# Altium integrated library Lattice ORCA Series 2.IntLib: 202 symbols (part 16 of 22)
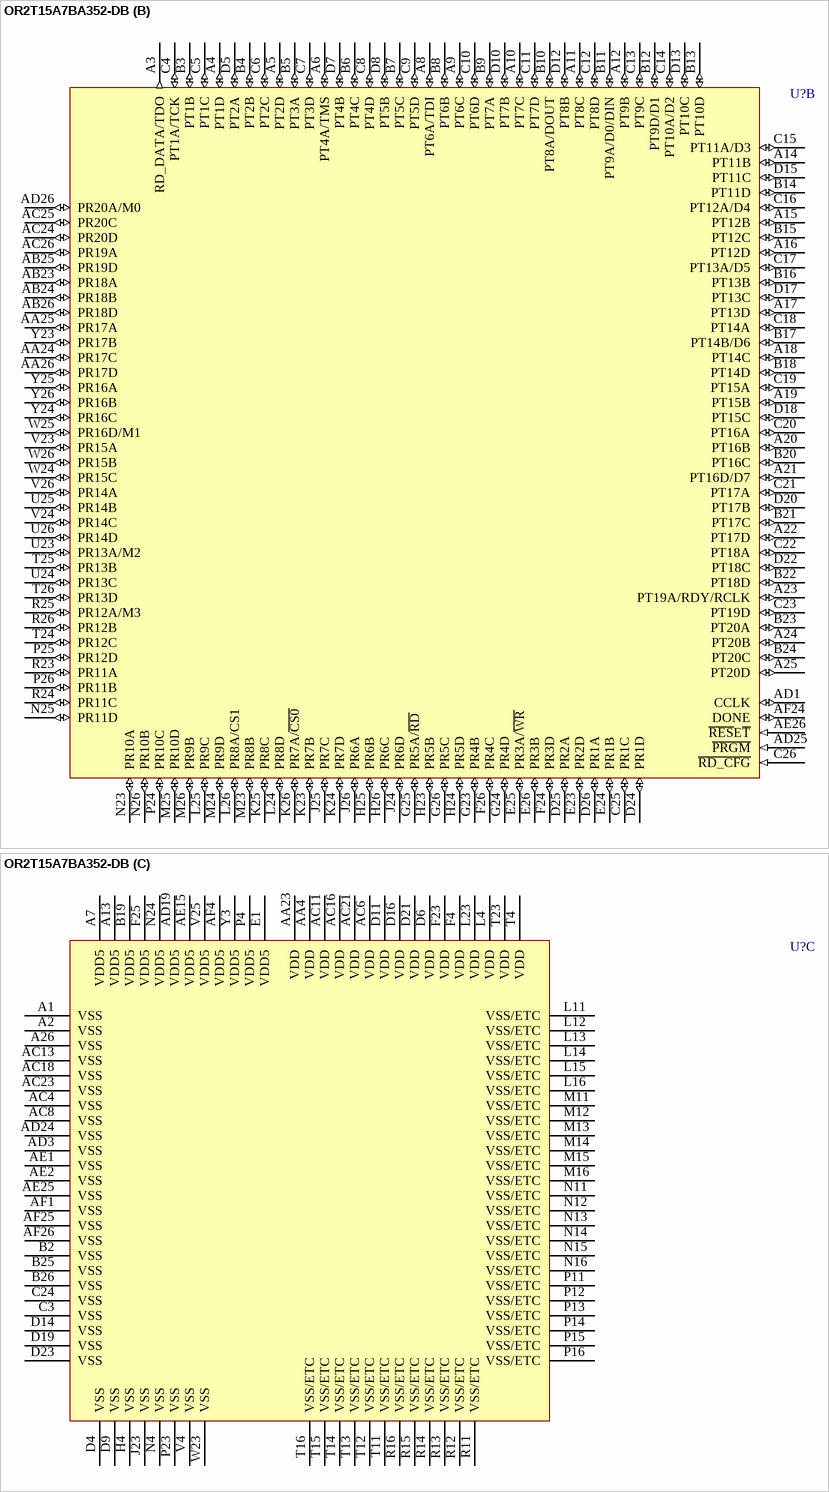
[diagram p207: symbol OR2T15A7BA352-DB]

## OR2T15A7BA352-DB
designator U?
ORCA Series 2C FPGA: 3.3 V, Commercial Grade, 320 User I/Os.; PinConnectionRecommendation: Ground array of 'VSS-ETC' pins for enhanced thermal capability or leave unconnected.; Published: 21-May-2003; LatestRevisionDate: 13-Apr-2006; LatestRevisionNote: IPC-7351 Footprint Added.; DatasheetVersion: Jan-2003; PackageVersion: pkg_32, Aug-2005; PackageReference: BGA388; Publisher: Altium Limited; PackageDescription: 388-Ball Ball Grid Array (BGA388); ComponentLink1Description: Manufacturer Link; ComponentLink1URL: http://www.latticesemi.com/products/fpga/orca/orca2/index.cfm; ComponentLink2Description: Datasheet; ComponentLink2URL: http://www.latticesemi.com/lit/docs/datasheets/fpga/ds99-094fpga.pdf; ComponentLink3Description: Lattice Login; ComponentLink3URL: http://www.latticesemi.com/account/login.cfm
footprint BGA388 (BGA, 388-Leads, Body 35x35mm, Pitch 1.27mm)
3D model OR2T15A-BGA388 (388-Ball Ball Grid Array (BGA388))
part A pins: AA1 PL17A (io), AA2 PL17C (io), AA3 PL19D (io), AB1 PL18A (io), AB2 PL18C (io), AB3 PL20C (io), AB4 PL19A (io), AC1 PL20D (io), AC2 PL19C (io), AC3 PL20A/A15 (io), AC5 PB3C (io), AC7 PB4C (io), AC9 PB6B (io), AC10 PB8B (io), AC12 PB10B (io), AC14 PB11B (io), AC15 PB13C (io), AC17 PB14C (io), AC19 PB16C (io), AC20 PB17C (io), AC22 PB19D (io), AD2 PL20B (io), AD4 PB2A (io), AD5 PB3D (io), AD6 PB4D/A17 (io), AD7 PB5D (io), AD8 PB6D (io), AD9 PB7D (io), AD10 PB8D (io), AD11 PB9D (io), AD12 PB10D (io), AD13 PB11D (io), AD14 PB12B (io), AD15 PB13A/HDC (io), AD16 PB14A/~{LDC} (io), AD17 PB15A (io), AD18 PB16A/~{INIT} (io), AD20 PB18A (io), AD21 PB19A (io), AD22 PB20B (io), AD23 PB20D (io), AE3 PB1B (io), AE4 PB1D (io), AE5 PB3A (io), AE6 PB4B (io), AE7 PB5B (io), AE8 PB6A (io), AE9 PB7A (io), AE10 PB7C (io), AE11 PB8C (io), AE12 PB9B (io), AE13 PB10A (io), AE14 PB11A (io), AE16 PB12D (io), AE17 PB13D (io), AE18 PB14D (io), AE19 PB15C (io), AE20 PB16B (io), AE21 PB17B (io), AE22 PB18B (io), AE23 PB19C (io), AE24 PB20C (io), AF2 PB1A/A16 (io), AF3 PB1C (io), AF5 PB4A (io), AF6 PB5A (io), AF7 PB5C (io), AF8 PB6C (io), AF9 PB7B (io), AF10 PB8A (io), AF11 PB9A (io), AF12 PB9C (io), AF13 PB10C (io), AF14 PB11C (io), AF15 PB12C (io), AF16 PB13B (io), AF17 PB14B (io), AF18 PB15B (io), AF19 PB15D (io), AF20 PB16D (io), AF21 PB17D (io), AF22 PB18D (io), AF23 PB20A (io), B1 PL1D (io), C1 PL1B (io), C2 PL1C (io), D1 PL2A (io), D2 PL1A (io), D3 PL2D/A0 (io), E2 PL3D (io), E3 PL3A (io), E4 PL3B (io), F1 PL5D (io), F2 PL4C (io), F3 PL4A (io), G1 PL5B (io), G2 PL5C (io), G3 PL5A/A1 (io), G4 PL4B (io), H1 PL6B (io), H2 PL6D (io), H3 PL6A/A2 (io), J1 PL7C (io), J2 PL7D (io), J3 PL7A/A3 (io), J4 PL6C (io), K1 PL8D (io), K2 PL7B (io), K3 PL8A/A4 (io), K4 PL8C (io), L1 PL9D/A5 (io), L2 PL8B (io), L3 PL9A/A6 (io), M1 PL9B (io), M2 PL9C (io), M3 PL10A/A7 (io), M4 PL10C (io), N1 PL10B (io), N2 PL10D (io), N3 PL11A/A8 (io), P1 PL11B (io), P2 PL11D (io), P3 PL12C (io), R1 PL12B (io), R2 PL12D/A9 (io), R3 PL13D (io), R4 PL13B (io), T1 PL13C (io), T2 PL12A/A10 (io), T3 PL14D/A12 (io), U1 PL14C (io), U2 PL13A/A11 (io), U3 PL15D (io), U4 PL14B (io), V1 PL15C (io), V2 PL14A (io), V3 PL16D (io), W1 PL15A (io), W2 PL15B/A13 (io), W3 PL17D/A14 (io), W4 PL16B (io), Y1 PL16A (io), Y2 PL16C (io), Y4 PL17B (io)
part B pins: A3 RD_DATA/TDO (out), A4 PT1D (io), A5 PT2D (io), A6 PT4A/TMS (io), A8 PT6A/TDI (io), A9 PT6C (io), A10 PT7C (io), A11 PT8C (io), A12 PT9B (io), A14 PT11B (io), A15 PT12B (io), A16 PT12D (io), A17 PT13D (io), A18 PT14C (io), A19 PT15B (io), A20 PT16B (io), A21 PT16D/D7 (io), A22 PT17D (io), A23 PT19A/RDY/RCLK (io), A24 PT20B (io), A25 PT20D (io), AA24 PR17C (io), AA25 PR17A (io), AA26 PR17D (io), AB23 PR18A (io), AB24 PR18B (io), AB25 PR19D (io), AB26 PR18D (io), AC24 PR20D (io), AC25 PR20C (io), AC26 PR19A (io), AD1 CCLK (io), AD25 ~{PRGM} (in), AD26 PR20A/M0 (io), AE26 ~{RES}E~{T} (in), AF24 DONE (io), B3 PT1B (io), B4 PT2B (io), B5 PT3A (io), B6 PT4C (io), B7 PT5C (io), B8 PT6B (io), B9 PT7A (io), B10 PT8A/DOUT (io), B11 PT9A/D0/DIN (io), B12 PT9D/D1 (io), B13 PT10D (io), B14 PT11D (io), B15 PT12C (io), B16 PT13B (io), B17 PT14B/D6 (io), B18 PT14D (io), B20 PT16C (io), B21 PT17C (io), B22 PT18D (io), B23 PT20A (io), B24 PT20C (io), C4 PT1A/TCK (io), C5 PT1C (io), C6 PT2C (io), C7 PT3D (io), C8 PT4D (io), C9 PT5D (io), C10 PT6D (io), C11 PT7D (io), C12 PT8D (io), C13 PT9C (io), C14 PT10A/D2 (io), C15 PT11A/D3 (io), C16 PT12A/D4 (io), C17 PT13A/D5 (io), C18 PT14A (io), C19 PT15A (io), C20 PT16A (io), C21 PT17A (io), C22 PT18A (io), C23 PT19D (io), C25 PR1C (io), C26 ~{RD_CFG} (in), D5 PT2A (io), D7 PT4B (io), D8 PT5B (io), D10 PT7B (io), D12 PT8B (io), D13 PT10C (io), D15 PT11C (io), D17 PT13C (io), D18 PT15C (io), D20 PT17B (io), D22 PT18C (io), D24 PR1D (io), D25 PR2A (io), D26 PR1A (io), E23 PR2D (io), E24 PR1B (io), E25 PR3A/~{WR} (io), E26 PR3B (io), F24 PR3D (io), F26 PR4C (io), G23 PR4B (io), G24 PR4D (io), G25 PR5A/~{RD} (io), G26 PR5C (io), H23 PR5B (io), H24 PR5D (io), H25 PR6B (io), H26 PR6C (io), J24 PR6D (io), J25 PR7C (io), J26 PR6A (io), K23 PR7B (io), K24 PR7D (io), K25 PR8C (io), K26 PR7A/~{CS0} (io), L24 PR8D (io), L25 PR9C (io), L26 PR8A/CS1 (io), M23 PR8B (io), M24 PR9D (io), M25 PR10D (io), M26 PR9B (io), N23 PR10A (io), N25 PR11D (io), N26 PR10B (io), P24 PR10C (io), P25 PR12D (io), P26 PR11B (io), R23 PR11A (io), R24 PR11C (io), R25 PR12A/M3 (io), R26 PR12B (io), T24 PR12C (io), T25 PR13B (io), T26 PR13D (io), U23 PR13A/M2 (io), U24 PR13C (io), U25 PR14B (io), U26 PR14D (io), V23 PR15A (io), V24 PR14C (io), V26 PR14A (io), W24 PR15C (io), W25 PR16D/M1 (io), W26 PR15B (io), Y23 PR17B (io), Y24 PR16C (io), Y25 PR16A (io), Y26 PR16B (io)
part C pins: A1 VSS (power), A2 VSS (power), A7 VDD5 (power), A13 VDD5 (power), A26 VSS (power), AA4 VDD (power), AA23 VDD (power), AC4 VSS (power), AC6 VDD (power), AC8 VSS (power), AC11 VDD (power), AC13 VSS (power), AC16 VDD (power), AC18 VSS (power), AC21 VDD (power), AC23 VSS (power), AD3 VSS (power), AD19 VDD5 (power), AD24 VSS (power), AE1 VSS (power), AE2 VSS (power), AE15 VDD5 (power), AE25 VSS (power), AF1 VSS (power), AF4 VDD5 (power), AF25 VSS (power), AF26 VSS (power), B2 VSS (power), B19 VDD5 (power), B25 VSS (power), B26 VSS (power), C3 VSS (power), C24 VSS (power), D4 VSS (power), D6 VDD (power), D9 VSS (power), D11 VDD (power), D14 VSS (power), D16 VDD (power), D19 VSS (power), D21 VDD (power), D23 VSS (power), E1 VDD5 (power), F4 VDD (power), F23 VDD (power), F25 VDD5 (power), H4 VSS (power), J23 VSS (power), L4 VDD (power), L11 VSS/ETC (power), L12 VSS/ETC (power), L13 VSS/ETC (power), L14 VSS/ETC (power), L15 VSS/ETC (power), L16 VSS/ETC (power), L23 VDD (power), M11 VSS/ETC (power), M12 VSS/ETC (power), M13 VSS/ETC (power), M14 VSS/ETC (power), M15 VSS/ETC (power), M16 VSS/ETC (power), N4 VSS (power), N11 VSS/ETC (power), N12 VSS/ETC (power), N13 VSS/ETC (power), N14 VSS/ETC (power), N15 VSS/ETC (power), N16 VSS/ETC (power), N24 VDD5 (power), P4 VDD5 (power), P11 VSS/ETC (power), P12 VSS/ETC (power), P13 VSS/ETC (power), P14 VSS/ETC (power), P15 VSS/ETC (power), P16 VSS/ETC (power), P23 VSS (power), R11 VSS/ETC (power), R12 VSS/ETC (power), R13 VSS/ETC (power), R14 VSS/ETC (power), R15 VSS/ETC (power), R16 VSS/ETC (power), T4 VDD (power), T11 VSS/ETC (power), T12 VSS/ETC (power), T13 VSS/ETC (power), T14 VSS/ETC (power), T15 VSS/ETC (power), T16 VSS/ETC (power), T23 VDD (power), V4 VSS (power), V25 VDD5 (power), W23 VSS (power), Y3 VDD5 (power)

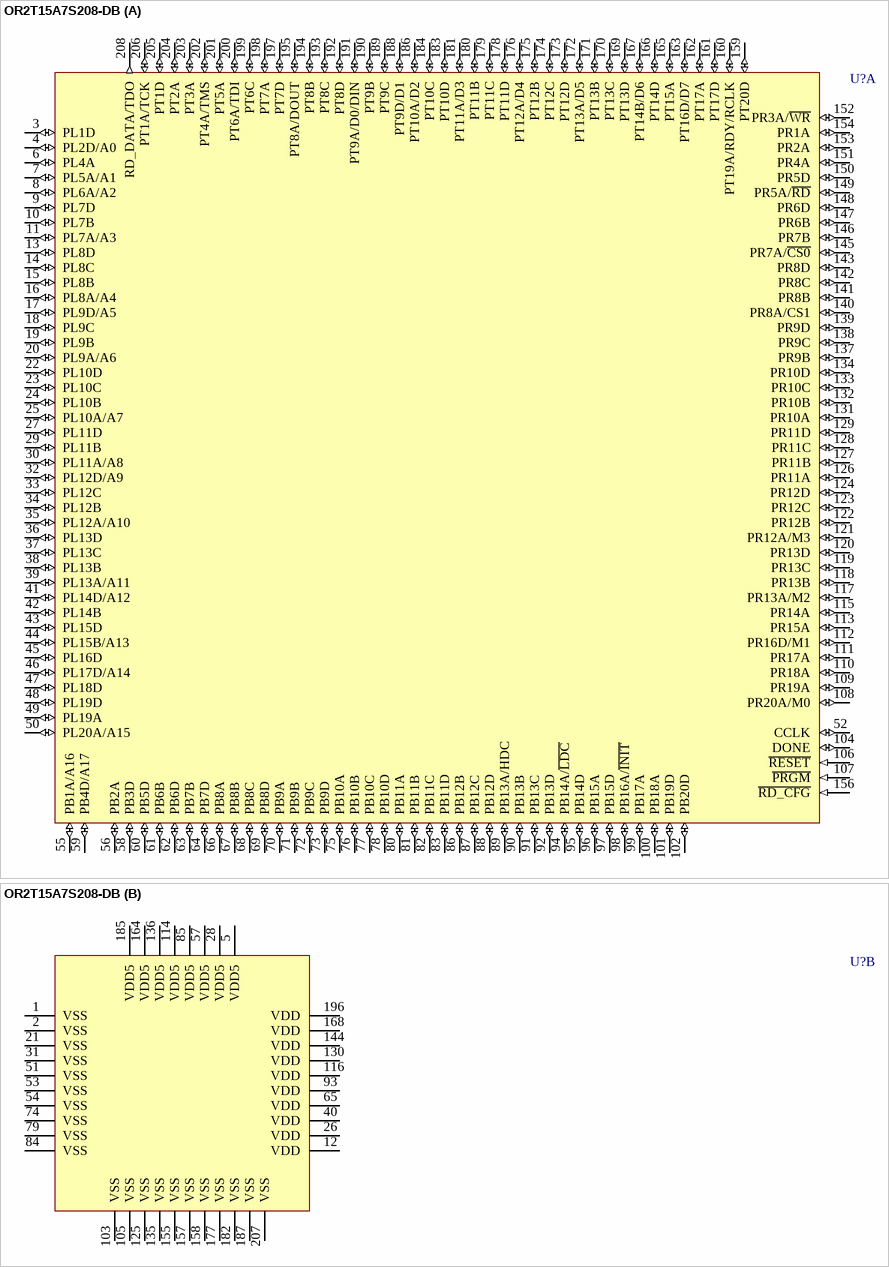
[diagram p124: symbol OR2T15A7S208-DB]

## OR2T15A7S208-DB
designator U?
ORCA Series 2C FPGA: 3.3 V, Commercial Grade, 320 User I/Os.; Published: 21-May-2003; LatestRevisionDate: 13-Apr-2006; LatestRevisionNote: IPC-7351 Footprint Added.; DatasheetVersion: Jan-2003; PackageVersion: pkg_32, Aug-2005; PackageReference: PQFP208; Publisher: Altium Limited; PackageDescription: 208-Pin Plastic Quad Flat Pack (PQFP208); Code_JEDEC: MO-143-FAI; ComponentLink1Description: Manufacturer Link; ComponentLink1URL: http://www.latticesemi.com/products/fpga/orca/orca2/index.cfm; ComponentLink2Description: Datasheet; ComponentLink2URL: http://www.latticesemi.com/lit/docs/datasheets/fpga/ds99-094fpga.pdf; ComponentLink3Description: Lattice Login; ComponentLink3URL: http://www.latticesemi.com/account/login.cfm
footprint PQFP208_N (Shrink QFP, 208-Leads, Body 28x28mm, Pitch 0.5mm, IPC Medium Density)
footprint PQFP208_L (Shrink QFP, 208-Leads, Body 28x28mm, Pitch 0.5mm, IPC High Density)
footprint PQFP208_M (Shrink QFP, 208-Leads, Body 28x28mm, Pitch 0.5mm, IPC Low Density)
3D model OR2T15A-PQFP208 (208-Pin Plastic Quad Flat Pack (PQFP208))
part A pins: 3 PL1D (io), 4 PL2D/A0 (io), 6 PL4A (io), 7 PL5A/A1 (io), 8 PL6A/A2 (io), 9 PL7D (io), 10 PL7B (io), 11 PL7A/A3 (io), 13 PL8D (io), 14 PL8C (io), 15 PL8B (io), 16 PL8A/A4 (io), 17 PL9D/A5 (io), 18 PL9C (io), 19 PL9B (io), 20 PL9A/A6 (io), 22 PL10D (io), 23 PL10C (io), 24 PL10B (io), 25 PL10A/A7 (io), 27 PL11D (io), 29 PL11B (io), 30 PL11A/A8 (io), 32 PL12D/A9 (io), 33 PL12C (io), 34 PL12B (io), 35 PL12A/A10 (io), 36 PL13D (io), 37 PL13C (io), 38 PL13B (io), 39 PL13A/A11 (io), 41 PL14D/A12 (io), 42 PL14B (io), 43 PL15D (io), 44 PL15B/A13 (io), 45 PL16D (io), 46 PL17D/A14 (io), 47 PL18D (io), 48 PL19D (io), 49 PL19A (io), 50 PL20A/A15 (io), 52 CCLK (io), 55 PB1A/A16 (io), 56 PB2A (io), 58 PB3D (io), 59 PB4D/A17 (io), 60 PB5D (io), 61 PB6B (io), 62 PB6D (io), 63 PB7B (io), 64 PB7D (io), 66 PB8A (io), 67 PB8B (io), 68 PB8C (io), 69 PB8D (io), 70 PB9A (io), 71 PB9B (io), 72 PB9C (io), 73 PB9D (io), 75 PB10A (io), 76 PB10B (io), 77 PB10C (io), 78 PB10D (io), 80 PB11A (io), 81 PB11B (io), 82 PB11C (io), 83 PB11D (io), 86 PB12B (io), 87 PB12C (io), 88 PB12D (io), 89 PB13A/HDC (io), 90 PB13B (io), 91 PB13C (io), 92 PB13D (io), 94 PB14A/~{LDC} (io), 95 PB14D (io), 96 PB15A (io), 97 PB15D (io), 98 PB16A/~{INIT} (io), 99 PB17A (io), 100 PB18A (io), 101 PB19D (io), 102 PB20D (io), 104 DONE (io), 106 ~{RESET} (in), 107 ~{PRGM} (in), 108 PR20A/M0 (io), 109 PR19A (io), 110 PR18A (io), 111 PR17A (io), 112 PR16D/M1 (io), 113 PR15A (io), 115 PR14A (io), 117 PR13A/M2 (io), 118 PR13B (io), 119 PR13C (io), 120 PR13D (io), 121 PR12A/M3 (io), 122 PR12B (io), 123 PR12C (io), 124 PR12D (io), 126 PR11A (io), 127 PR11B (io), 128 PR11C (io), 129 PR11D (io), 131 PR10A (io), 132 PR10B (io), 133 PR10C (io), 134 PR10D (io), 137 PR9B (io), 138 PR9C (io), 139 PR9D (io), 140 PR8A/CS1 (io), 141 PR8B (io), 142 PR8C (io), 143 PR8D (io), 145 PR7A/~{CS0} (io), 146 PR7B (io), 147 PR6B (io), 148 PR6D (io), 149 PR5A/~{RD} (io), 150 PR5D (io), 151 PR4A (io), 152 PR3A/~{WR} (io), 153 PR2A (io), 154 PR1A (io), 156 ~{RD_CFG} (in), 159 PT20D (io), 160 PT19A/RDY/RCLK (io), 161 PT17D (io), 162 PT17A (io), 163 PT16D/D7 (io), 165 PT15A (io), 166 PT14D (io), 167 PT14B/D6 (io), 169 PT13D (io), 170 PT13C (io), 171 PT13B (io), 172 PT13A/D5 (io), 173 PT12D (io), 174 PT12C (io), 175 PT12B (io), 176 PT12A/D4 (io), 178 PT11D (io), 179 PT11C (io), 180 PT11B (io), 181 PT11A/D3 (io), 183 PT10D (io), 184 PT10C (io), 186 PT10A/D2 (io), 188 PT9D/D1 (io), 189 PT9C (io), 190 PT9B (io), 191 PT9A/D0/DIN (io), 192 PT8D (io), 193 PT8C (io), 194 PT8B (io), 195 PT8A/DOUT (io), 197 PT7D (io), 198 PT7A (io), 199 PT6C (io), 200 PT6A/TDI (io), 201 PT5A (io), 202 PT4A/TMS (io), 203 PT3A (io), 204 PT2A (io), 205 PT1D (io), 206 PT1A/TCK (io), 208 RD_DATA/TDO (out)
part B pins: 1 VSS (power), 2 VSS (power), 5 VDD5 (power), 12 VDD (power), 21 VSS (power), 26 VDD (power), 28 VDD5 (power), 31 VSS (power), 40 VDD (power), 51 VSS (power), 53 VSS (power), 54 VSS (power), 57 VDD5 (power), 65 VDD (power), 74 VSS (power), 79 VSS (power), 84 VSS (power), 85 VDD5 (power), 93 VDD (power), 103 VSS (power), 105 VSS (power), 114 VDD5 (power), 116 VDD (power), 125 VSS (power), 130 VDD (power), 135 VSS (power), 136 VDD5 (power), 144 VDD (power), 155 VSS (power), 157 VSS (power), 158 VSS (power), 164 VDD5 (power), 168 VDD (power), 177 VSS (power), 182 VSS (power), 185 VDD5 (power), 187 VSS (power), 196 VDD (power), 207 VSS (power)

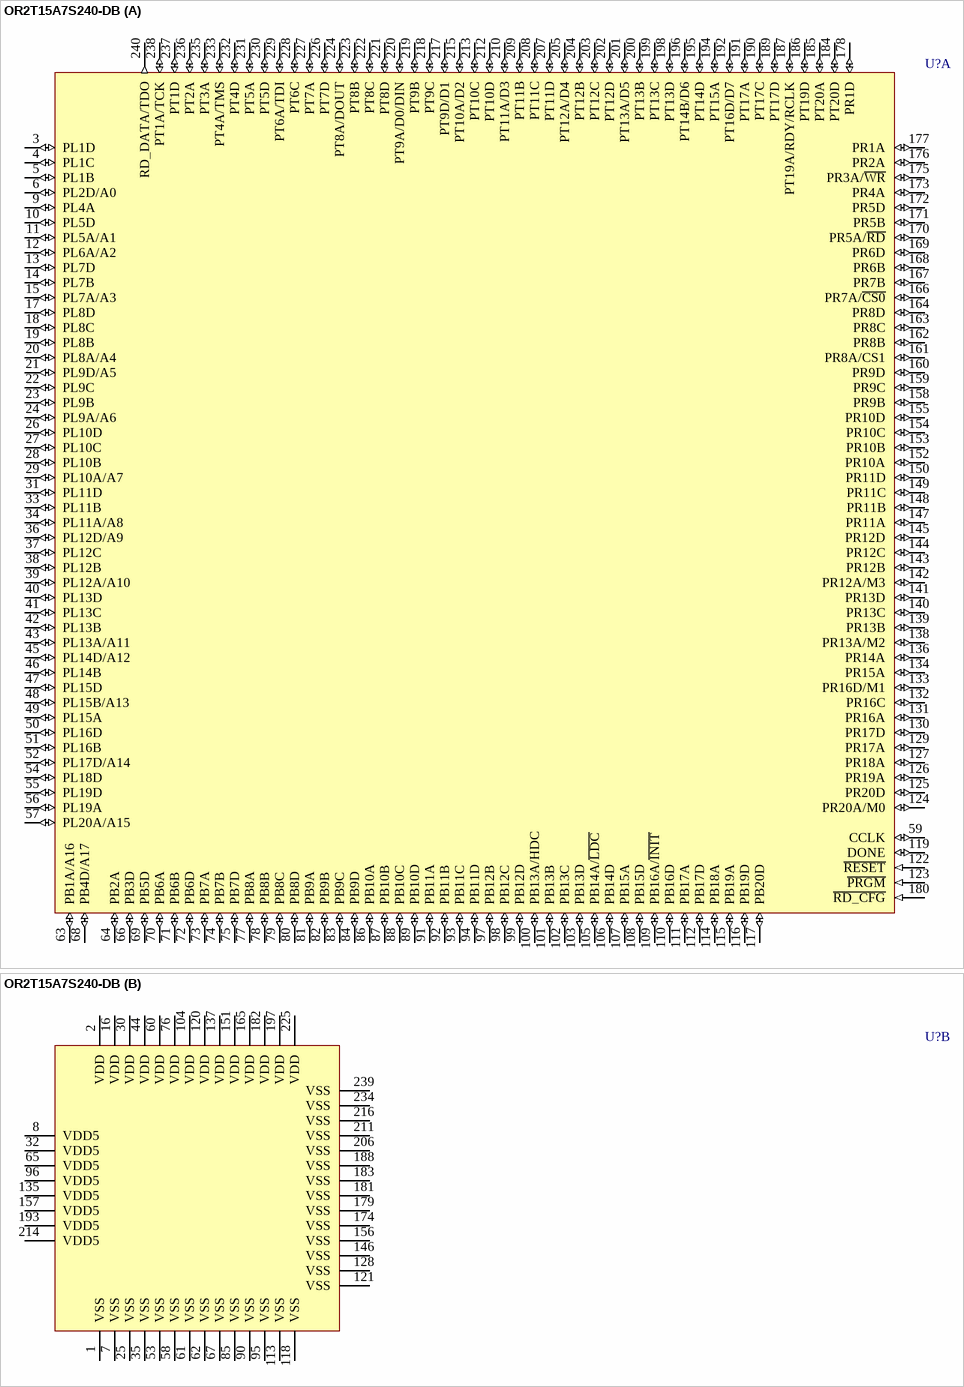
[diagram p125: symbol OR2T15A7S240-DB]

## OR2T15A7S240-DB
designator U?
ORCA Series 2C FPGA: 3.3 V, Commercial Grade, 320 User I/Os.; Published: 21-May-2003; LatestRevisionDate: 13-Apr-2006; LatestRevisionNote: IPC-7351 Footprint Added.; DatasheetVersion: Jan-2003; PackageVersion: pkg_32, Aug-2005; PackageReference: PQFP240; Publisher: Altium Limited; PackageDescription: 240-Pin Shrink Quad Flat Pack 0.5 mm Pitch; ComponentLink1Description: Manufacturer Link; ComponentLink1URL: http://www.latticesemi.com/products/fpga/orca/orca2/index.cfm; ComponentLink2Description: Datasheet; ComponentLink2URL: http://www.latticesemi.com/lit/docs/datasheets/fpga/ds99-094fpga.pdf; ComponentLink3Description: Lattice Login; ComponentLink3URL: http://www.latticesemi.com/account/login.cfm
footprint PQFP240_N (Shrink QFP, 240-Leads, Body 32x32mm, Pitch 0.5mm, IPC Medium Density)
footprint PQFP240_L (Shrink QFP, 240-Leads, Body 32x32mm, Pitch 0.5mm, IPC High Density)
footprint PQFP240_M (Shrink QFP, 240-Leads, Body 32x32mm, Pitch 0.5mm, IPC Low Density)
3D model OR2T15A-PQFP240 (240-Pin Shrink Quad Flat Pack 0.5 mm Pitch)
part A pins: 3 PL1D (io), 4 PL1C (io), 5 PL1B (io), 6 PL2D/A0 (io), 9 PL4A (io), 10 PL5D (io), 11 PL5A/A1 (io), 12 PL6A/A2 (io), 13 PL7D (io), 14 PL7B (io), 15 PL7A/A3 (io), 17 PL8D (io), 18 PL8C (io), 19 PL8B (io), 20 PL8A/A4 (io), 21 PL9D/A5 (io), 22 PL9C (io), 23 PL9B (io), 24 PL9A/A6 (io), 26 PL10D (io), 27 PL10C (io), 28 PL10B (io), 29 PL10A/A7 (io), 31 PL11D (io), 33 PL11B (io), 34 PL11A/A8 (io), 36 PL12D/A9 (io), 37 PL12C (io), 38 PL12B (io), 39 PL12A/A10 (io), 40 PL13D (io), 41 PL13C (io), 42 PL13B (io), 43 PL13A/A11 (io), 45 PL14D/A12 (io), 46 PL14B (io), 47 PL15D (io), 48 PL15B/A13 (io), 49 PL15A (io), 50 PL16D (io), 51 PL16B (io), 52 PL17D/A14 (io), 54 PL18D (io), 55 PL19D (io), 56 PL19A (io), 57 PL20A/A15 (io), 59 CCLK (io), 63 PB1A/A16 (io), 64 PB2A (io), 66 PB3D (io), 68 PB4D/A17 (io), 69 PB5D (io), 70 PB6A (io), 71 PB6B (io), 72 PB6D (io), 73 PB7A (io), 74 PB7B (io), 75 PB7D (io), 77 PB8A (io), 78 PB8B (io), 79 PB8C (io), 80 PB8D (io), 81 PB9A (io), 82 PB9B (io), 83 PB9C (io), 84 PB9D (io), 86 PB10A (io), 87 PB10B (io), 88 PB10C (io), 89 PB10D (io), 91 PB11A (io), 92 PB11B (io), 93 PB11C (io), 94 PB11D (io), 97 PB12B (io), 98 PB12C (io), 99 PB12D (io), 100 PB13A/HDC (io), 101 PB13B (io), 102 PB13C (io), 103 PB13D (io), 105 PB14A/~{LDC} (io), 106 PB14D (io), 107 PB15A (io), 108 PB15D (io), 109 PB16A/~{INIT} (io), 110 PB16D (io), 111 PB17A (io), 112 PB17D (io), 114 PB18A (io), 115 PB19A (io), 116 PB19D (io), 117 PB20D (io), 119 DONE (io), 122 ~{RESET} (in), 123 ~{PRGM} (in), 124 PR20A/M0 (io), 125 PR20D (io), 126 PR19A (io), 127 PR18A (io), 129 PR17A (io), 130 PR17D (io), 131 PR16A (io), 132 PR16C (io), 133 PR16D/M1 (io), 134 PR15A (io), 136 PR14A (io), 138 PR13A/M2 (io), 139 PR13B (io), 140 PR13C (io), 141 PR13D (io), 142 PR12A/M3 (io), 143 PR12B (io), 144 PR12C (io), 145 PR12D (io), 147 PR11A (io), 148 PR11B (io), 149 PR11C (io), 150 PR11D (io), 152 PR10A (io), 153 PR10B (io), 154 PR10C (io), 155 PR10D (io), 158 PR9B (io), 159 PR9C (io), 160 PR9D (io), 161 PR8A/CS1 (io), 162 PR8B (io), 163 PR8C (io), 164 PR8D (io), 166 PR7A/~{CS0} (io), 167 PR7B (io), 168 PR6B (io), 169 PR6D (io), 170 PR5A/~{RD} (io), 171 PR5B (io), 172 PR5D (io), 173 PR4A (io), 175 PR3A/~{WR} (io), 176 PR2A (io), 177 PR1A (io), 178 PR1D (io), 180 ~{RD_CFG} (in), 184 PT20D (io), 185 PT20A (io), 186 PT19D (io), 187 PT19A/RDY/RCLK (io), 189 PT17D (io), 190 PT17C (io), 191 PT17A (io), 192 PT16D/D7 (io), 194 PT15A (io), 195 PT14D (io), 196 PT14B/D6 (io), 198 PT13D (io), 199 PT13C (io), 200 PT13B (io), 201 PT13A/D5 (io), 202 PT12D (io), 203 PT12C (io), 204 PT12B (io), 205 PT12A/D4 (io), 207 PT11D (io), 208 PT11C (io), 209 PT11B (io), 210 PT11A/D3 (io), 212 PT10D (io), 213 PT10C (io), 215 PT10A/D2 (io), 217 PT9D/D1 (io), 218 PT9C (io), 219 PT9B (io), 220 PT9A/D0/DIN (io), 221 PT8D (io), 222 PT8C (io), 223 PT8B (io), 224 PT8A/DOUT (io), 226 PT7D (io), 227 PT7A (io), 228 PT6C (io), 229 PT6A/TDI (io), 230 PT5D (io), 231 PT5A (io), 232 PT4D (io), 233 PT4A/TMS (io), 235 PT3A (io), 236 PT2A (io), 237 PT1D (io), 238 PT1A/TCK (io), 240 RD_DATA/TDO (out)
part B pins: 1 VSS (power), 2 VDD (power), 7 VSS (power), 8 VDD5 (power), 16 VDD (power), 25 VSS (power), 30 VDD (power), 32 VDD5 (power), 35 VSS (power), 44 VDD (power), 53 VSS (power), 58 VSS (power), 60 VDD (power), 61 VSS (power), 62 VSS (power), 65 VDD5 (power), 67 VSS (power), 76 VDD (power), 85 VSS (power), 90 VSS (power), 95 VSS (power), 96 VDD5 (power), 104 VDD (power), 113 VSS (power), 118 VSS (power), 120 VDD (power), 121 VSS (power), 128 VSS (power), 135 VDD5 (power), 137 VDD (power), 146 VSS (power), 151 VDD (power), 156 VSS (power), 157 VDD5 (power), 165 VDD (power), 174 VSS (power), 179 VSS (power), 181 VSS (power), 182 VDD (power), 183 VSS (power), 188 VSS (power), 193 VDD5 (power), 197 VDD (power), 206 VSS (power), 211 VSS (power), 214 VDD5 (power), 216 VSS (power), 225 VDD (power), 234 VSS (power), 239 VSS (power)

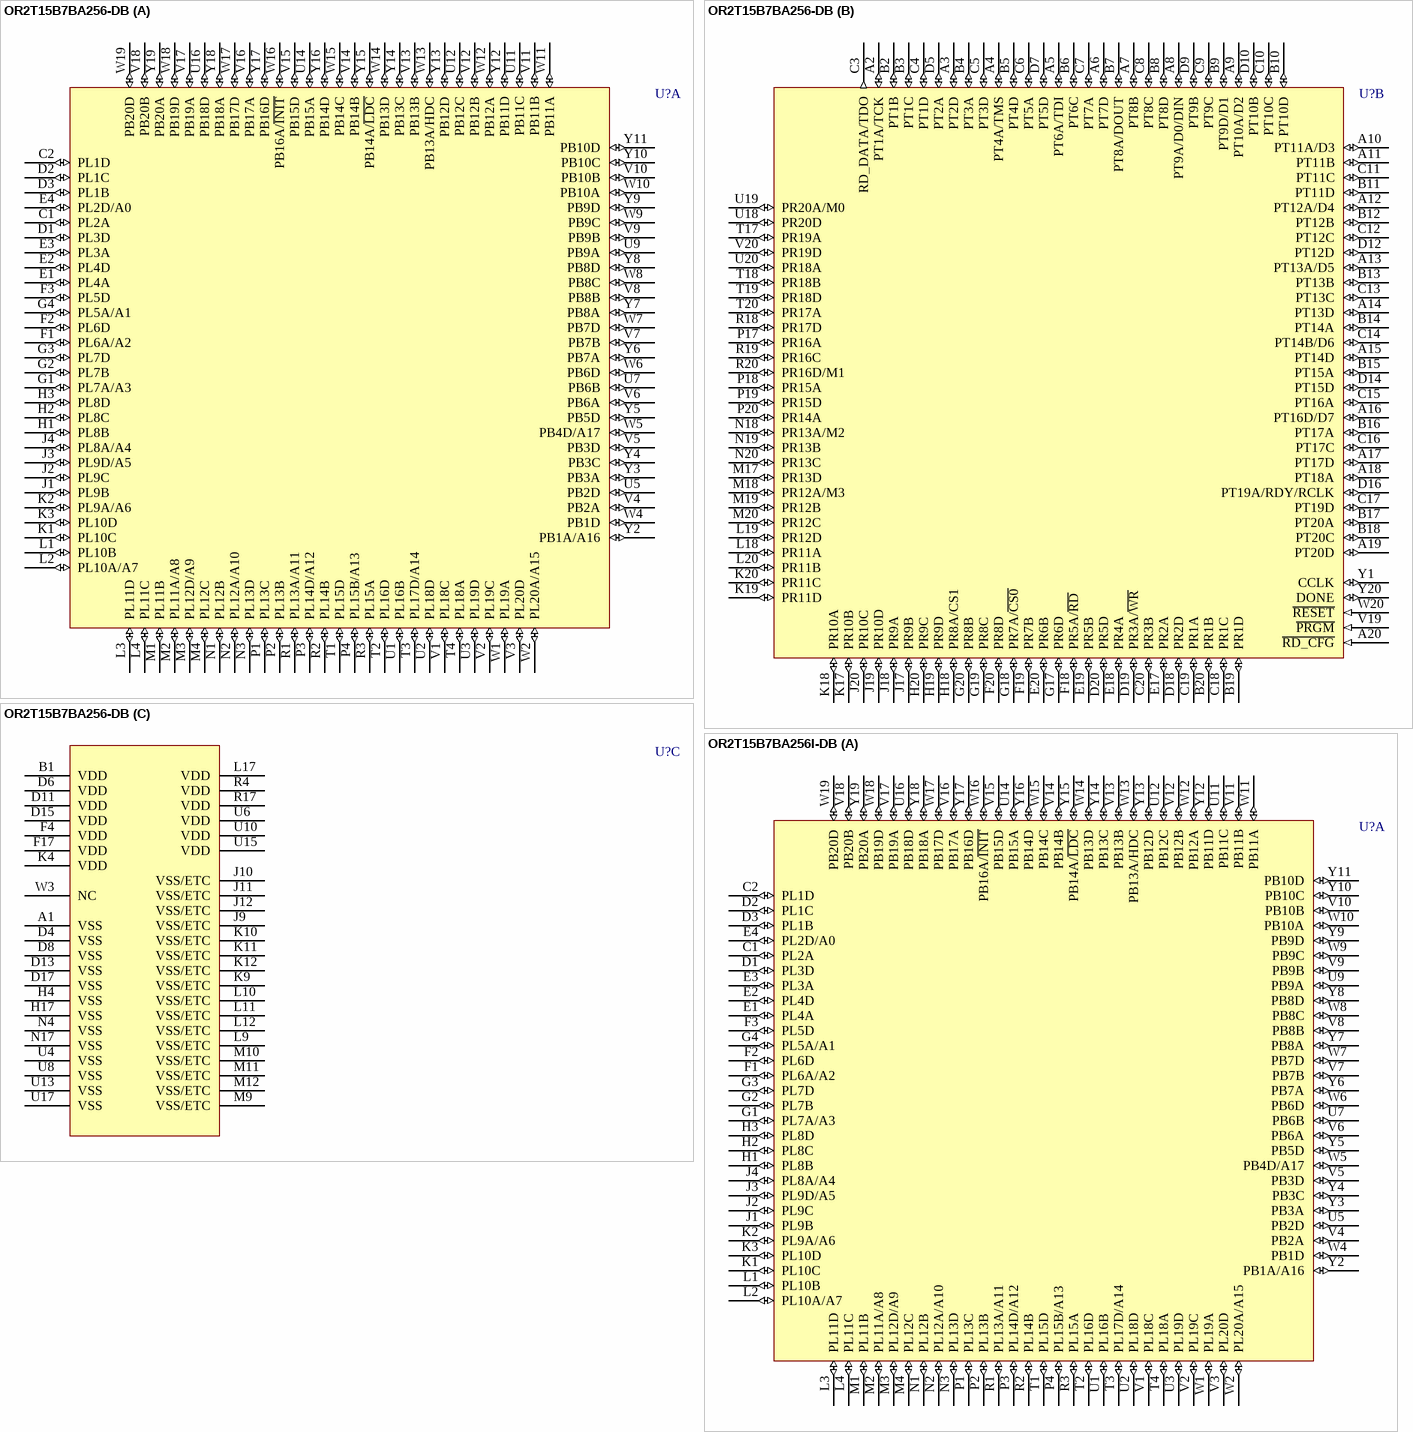
[diagram p126: symbols OR2T15B7BA256-DB to OR2T15B7BA256I-DB]

## OR2T15B7BA256-DB
designator U?
ORCA Series 2C FPGA: 3.3 V, Commercial Grade, 320 User I/Os.; PinConnectionRecommendation: Ground array of 'VSS-ETC' pins for enhanced thermal capability or leave unconnected.; Published: 21-May-2003; LatestRevisionDate: 13-Apr-2006; LatestRevisionNote: IPC-7351 Footprint Added.; DatasheetVersion: Jan-2003; PackageVersion: pkg_32, Aug-2005; PackageReference: BGA272; Publisher: Altium Limited; PackageDescription: 272-Ball Ball Grid Array (BGA272); ComponentLink1Description: Manufacturer Link; ComponentLink1URL: http://www.latticesemi.com/products/fpga/orca/orca2/index.cfm; ComponentLink2Description: Datasheet; ComponentLink2URL: http://www.latticesemi.com/lit/docs/datasheets/fpga/ds99-094fpga.pdf; ComponentLink3Description: Lattice Login; ComponentLink3URL: http://www.latticesemi.com/account/login.cfm
footprint BGA272 (BGA, 272-Leads, Body 27x27mm, Pitch 1.27mm)
3D model OR2T15B-BGA272 (272-Ball Ball Grid Array (BGA272))
part A pins: C1 PL2A (io), C2 PL1D (io), D1 PL3D (io), D2 PL1C (io), D3 PL1B (io), E1 PL4A (io), E2 PL4D (io), E3 PL3A (io), E4 PL2D/A0 (io), F1 PL6A/A2 (io), F2 PL6D (io), F3 PL5D (io), G1 PL7A/A3 (io), G2 PL7B (io), G3 PL7D (io), G4 PL5A/A1 (io), H1 PL8B (io), H2 PL8C (io), H3 PL8D (io), J1 PL9B (io), J2 PL9C (io), J3 PL9D/A5 (io), J4 PL8A/A4 (io), K1 PL10C (io), K2 PL9A/A6 (io), K3 PL10D (io), L1 PL10B (io), L2 PL10A/A7 (io), L3 PL11D (io), L4 PL11C (io), M1 PL11B (io), M2 PL11A/A8 (io), M3 PL12D/A9 (io), M4 PL12C (io), N1 PL12B (io), N2 PL12A/A10 (io), N3 PL13D (io), P1 PL13C (io), P2 PL13B (io), P3 PL14D/A12 (io), P4 PL15B/A13 (io), R1 PL13A/A11 (io), R2 PL14B (io), R3 PL15A (io), T1 PL15D (io), T2 PL16D (io), T3 PL17D/A14 (io), T4 PL18A (io), U1 PL16B (io), U2 PL18D (io), U3 PL19D (io), U5 PB2D (io), U7 PB6B (io), U9 PB9A (io), U11 PB11C (io), U12 PB12C (io), U14 PB15A (io), U16 PB18D (io), V1 PL18C (io), V2 PL19C (io), V3 PL20D (io), V4 PB2A (io), V5 PB3D (io), V6 PB6A (io), V7 PB7B (io), V8 PB8B (io), V9 PB9B (io), V10 PB10B (io), V11 PB11B (io), V12 PB12B (io), V13 PB13B (io), V14 PB14B (io), V15 PB15D (io), V16 PB17A (io), V17 PB19A (io), V18 PB20B (io), W1 PL19A (io), W2 PL20A/A15 (io), W4 PB1D (io), W5 PB4D/A17 (io), W6 PB6D (io), W7 PB7D (io), W8 PB8C (io), W9 PB9C (io), W10 PB10A (io), W11 PB11A (io), W12 PB12A (io), W13 PB13A/HDC (io), W14 PB13D (io), W15 PB14C (io), W16 PB16A/~{INIT} (io), W17 PB17D (io), W18 PB19D (io), W19 PB20D (io), Y2 PB1A/A16 (io), Y3 PB3A (io), Y4 PB3C (io), Y5 PB5D (io), Y6 PB7A (io), Y7 PB8A (io), Y8 PB8D (io), Y9 PB9D (io), Y10 PB10C (io), Y11 PB10D (io), Y12 PB11D (io), Y13 PB12D (io), Y14 PB13C (io), Y15 PB14A/~{LDC} (io), Y16 PB14D (io), Y17 PB16D (io), Y18 PB18A (io), Y19 PB20A (io)
part B pins: A2 PT1A/TCK (io), A3 PT2D (io), A4 PT4A/TMS (io), A5 PT6A/TDI (io), A6 PT7D (io), A7 PT8B (io), A8 PT9A/D0/DIN (io), A9 PT10A/D2 (io), A10 PT11A/D3 (io), A11 PT11B (io), A12 PT12A/D4 (io), A13 PT13A/D5 (io), A14 PT13D (io), A15 PT14D (io), A16 PT16D/D7 (io), A17 PT17D (io), A18 PT18A (io), A19 PT20D (io), A20 ~{RD_CFG} (in), B2 PT1B (io), B3 PT1C (io), B4 PT3A (io), B5 PT4D (io), B6 PT6C (io), B7 PT8A/DOUT (io), B8 PT8D (io), B9 PT9D/D1 (io), B10 PT10D (io), B11 PT11D (io), B12 PT12B (io), B13 PT13B (io), B14 PT14A (io), B15 PT15A (io), B16 PT17A (io), B17 PT20A (io), B18 PT20C (io), B19 PR1D (io), B20 PR1B (io), C3 RD_DATA/TDO (out), C4 PT1D (io), C5 PT3D (io), C6 PT5A (io), C7 PT7A (io), C8 PT8C (io), C9 PT9C (io), C10 PT10C (io), C11 PT11C (io), C12 PT12C (io), C13 PT13C (io), C14 PT14B/D6 (io), C15 PT16A (io), C16 PT17C (io), C17 PT19D (io), C18 PR1C (io), C19 PR1A (io), C20 PR3B (io), D5 PT2A (io), D7 PT5D (io), D9 PT9B (io), D10 PT10B (io), D12 PT12D (io), D14 PT15D (io), D16 PT19A/RDY/RCLK (io), D18 PR2D (io), D19 PR3A/~{WR} (io), D20 PR5D (io), E17 PR2A (io), E18 PR4A (io), E19 PR5B (io), E20 PR6B (io), F18 PR5A/~{RD} (io), F19 PR7B (io), F20 PR8D (io), G17 PR6D (io), G18 PR7A/~{CS0} (io), G19 PR8C (io), G20 PR8B (io), H18 PR8A/CS1 (io), H19 PR9D (io), H20 PR9C (io), J17 PR9B (io), J18 PR9A (io), J19 PR10D (io), J20 PR10C (io), K17 PR10B (io), K18 PR10A (io), K19 PR11D (io), K20 PR11C (io), L18 PR11A (io), L19 PR12D (io), L20 PR11B (io), M17 PR13D (io), M18 PR12A/M3 (io), M19 PR12B (io), M20 PR12C (io), N18 PR13A/M2 (io), N19 PR13B (io), N20 PR13C (io), P17 PR16A (io), P18 PR15A (io), P19 PR15D (io), P20 PR14A (io), R18 PR17D (io), R19 PR16C (io), R20 PR16D/M1 (io), T17 PR19A (io), T18 PR18B (io), T19 PR18D (io), T20 PR17A (io), U18 PR20D (io), U19 PR20A/M0 (io), U20 PR18A (io), V19 ~{PRGM} (in), V20 PR19D (io), W20 ~{RESET} (in), Y1 CCLK (io), Y20 DONE (io)
part C pins: A1 VSS (power), B1 VDD (power), D4 VSS (power), D6 VDD (power), D8 VSS (power), D11 VDD (power), D13 VSS (power), D15 VDD (power), D17 VSS (power), F4 VDD (power), F17 VDD (power), H4 VSS (power), H17 VSS (power), J9 VSS/ETC (power), J10 VSS/ETC (power), J11 VSS/ETC (power), J12 VSS/ETC (power), K4 VDD (power), K9 VSS/ETC (power), K10 VSS/ETC (power), K11 VSS/ETC (power), K12 VSS/ETC (power), L9 VSS/ETC (power), L10 VSS/ETC (power), L11 VSS/ETC (power), L12 VSS/ETC (power), L17 VDD (power), M9 VSS/ETC (power), M10 VSS/ETC (power), M11 VSS/ETC (power), M12 VSS/ETC (power), N4 VSS (power), N17 VSS (power), R4 VDD (power), R17 VDD (power), U4 VSS (power), U6 VDD (power), U8 VSS (power), U10 VDD (power), U13 VSS (power), U15 VDD (power), U17 VSS (power), W3 NC

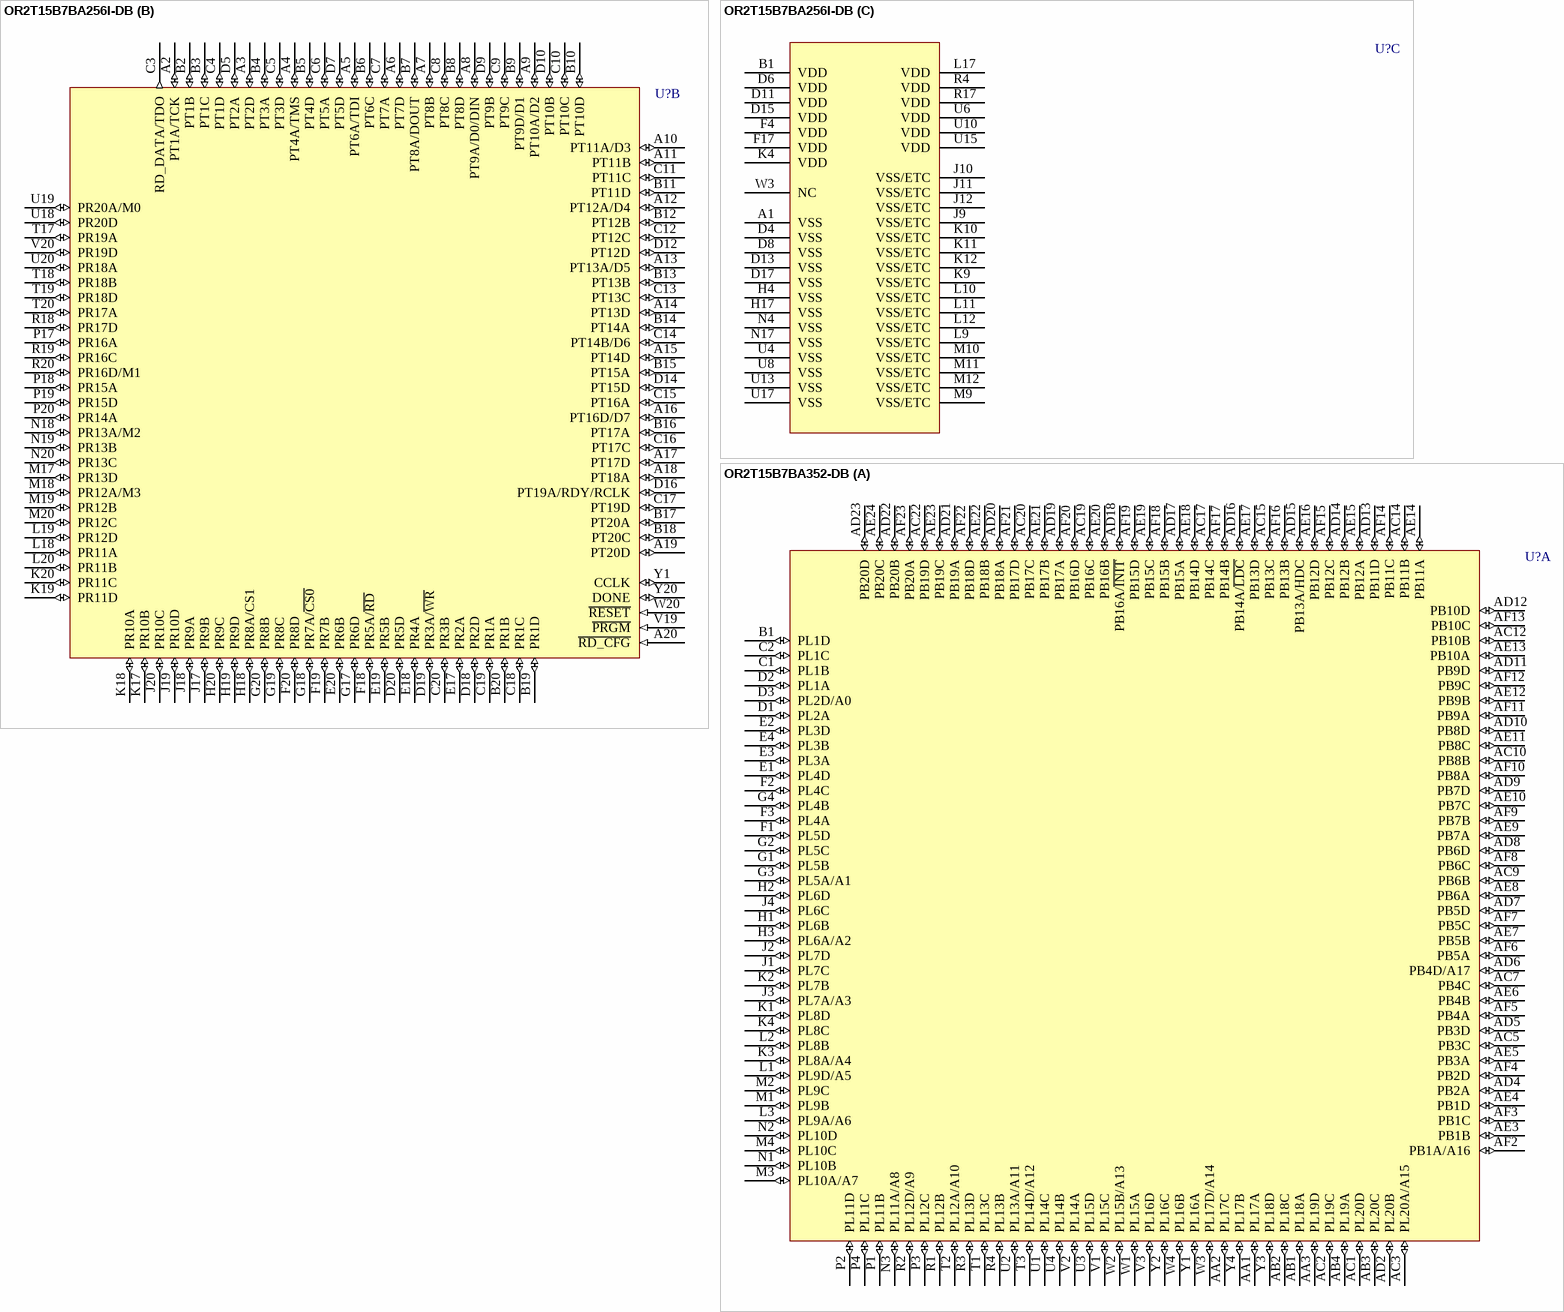
[diagram p127: symbols OR2T15B7BA256I-DB to OR2T15B7BA352-DB]

## OR2T15B7BA256I-DB
designator U?
ORCA Series 2C FPGA: 3.3 V, Industrial Grade, 320 User I/Os.; PinConnectionRecommendation: Ground array of 'VSS-ETC' pins for enhanced thermal capability or leave unconnected.; Published: 21-May-2003; LatestRevisionDate: 13-Apr-2006; LatestRevisionNote: IPC-7351 Footprint Added.; DatasheetVersion: Jan-2003; PackageVersion: pkg_32, Aug-2005; PackageReference: BGA272; Publisher: Altium Limited; PackageDescription: 272-Ball Ball Grid Array (BGA272); ComponentLink1Description: Manufacturer Link; ComponentLink1URL: http://www.latticesemi.com/products/fpga/orca/orca2/index.cfm; ComponentLink2Description: Datasheet; ComponentLink2URL: http://www.latticesemi.com/lit/docs/datasheets/fpga/ds99-094fpga.pdf; ComponentLink3Description: Lattice Login; ComponentLink3URL: http://www.latticesemi.com/account/login.cfm
footprint BGA272 (BGA, 272-Leads, Body 27x27mm, Pitch 1.27mm)
3D model OR2T15B-BGA272 (272-Ball Ball Grid Array (BGA272))
part A pins: C1 PL2A (io), C2 PL1D (io), D1 PL3D (io), D2 PL1C (io), D3 PL1B (io), E1 PL4A (io), E2 PL4D (io), E3 PL3A (io), E4 PL2D/A0 (io), F1 PL6A/A2 (io), F2 PL6D (io), F3 PL5D (io), G1 PL7A/A3 (io), G2 PL7B (io), G3 PL7D (io), G4 PL5A/A1 (io), H1 PL8B (io), H2 PL8C (io), H3 PL8D (io), J1 PL9B (io), J2 PL9C (io), J3 PL9D/A5 (io), J4 PL8A/A4 (io), K1 PL10C (io), K2 PL9A/A6 (io), K3 PL10D (io), L1 PL10B (io), L2 PL10A/A7 (io), L3 PL11D (io), L4 PL11C (io), M1 PL11B (io), M2 PL11A/A8 (io), M3 PL12D/A9 (io), M4 PL12C (io), N1 PL12B (io), N2 PL12A/A10 (io), N3 PL13D (io), P1 PL13C (io), P2 PL13B (io), P3 PL14D/A12 (io), P4 PL15B/A13 (io), R1 PL13A/A11 (io), R2 PL14B (io), R3 PL15A (io), T1 PL15D (io), T2 PL16D (io), T3 PL17D/A14 (io), T4 PL18A (io), U1 PL16B (io), U2 PL18D (io), U3 PL19D (io), U5 PB2D (io), U7 PB6B (io), U9 PB9A (io), U11 PB11C (io), U12 PB12C (io), U14 PB15A (io), U16 PB18D (io), V1 PL18C (io), V2 PL19C (io), V3 PL20D (io), V4 PB2A (io), V5 PB3D (io), V6 PB6A (io), V7 PB7B (io), V8 PB8B (io), V9 PB9B (io), V10 PB10B (io), V11 PB11B (io), V12 PB12B (io), V13 PB13B (io), V14 PB14B (io), V15 PB15D (io), V16 PB17A (io), V17 PB19A (io), V18 PB20B (io), W1 PL19A (io), W2 PL20A/A15 (io), W4 PB1D (io), W5 PB4D/A17 (io), W6 PB6D (io), W7 PB7D (io), W8 PB8C (io), W9 PB9C (io), W10 PB10A (io), W11 PB11A (io), W12 PB12A (io), W13 PB13A/HDC (io), W14 PB13D (io), W15 PB14C (io), W16 PB16A/~{INIT} (io), W17 PB17D (io), W18 PB19D (io), W19 PB20D (io), Y2 PB1A/A16 (io), Y3 PB3A (io), Y4 PB3C (io), Y5 PB5D (io), Y6 PB7A (io), Y7 PB8A (io), Y8 PB8D (io), Y9 PB9D (io), Y10 PB10C (io), Y11 PB10D (io), Y12 PB11D (io), Y13 PB12D (io), Y14 PB13C (io), Y15 PB14A/~{LDC} (io), Y16 PB14D (io), Y17 PB16D (io), Y18 PB18A (io), Y19 PB20A (io)
part B pins: A2 PT1A/TCK (io), A3 PT2D (io), A4 PT4A/TMS (io), A5 PT6A/TDI (io), A6 PT7D (io), A7 PT8B (io), A8 PT9A/D0/DIN (io), A9 PT10A/D2 (io), A10 PT11A/D3 (io), A11 PT11B (io), A12 PT12A/D4 (io), A13 PT13A/D5 (io), A14 PT13D (io), A15 PT14D (io), A16 PT16D/D7 (io), A17 PT17D (io), A18 PT18A (io), A19 PT20D (io), A20 ~{RD_CFG} (in), B2 PT1B (io), B3 PT1C (io), B4 PT3A (io), B5 PT4D (io), B6 PT6C (io), B7 PT8A/DOUT (io), B8 PT8D (io), B9 PT9D/D1 (io), B10 PT10D (io), B11 PT11D (io), B12 PT12B (io), B13 PT13B (io), B14 PT14A (io), B15 PT15A (io), B16 PT17A (io), B17 PT20A (io), B18 PT20C (io), B19 PR1D (io), B20 PR1B (io), C3 RD_DATA/TDO (out), C4 PT1D (io), C5 PT3D (io), C6 PT5A (io), C7 PT7A (io), C8 PT8C (io), C9 PT9C (io), C10 PT10C (io), C11 PT11C (io), C12 PT12C (io), C13 PT13C (io), C14 PT14B/D6 (io), C15 PT16A (io), C16 PT17C (io), C17 PT19D (io), C18 PR1C (io), C19 PR1A (io), C20 PR3B (io), D5 PT2A (io), D7 PT5D (io), D9 PT9B (io), D10 PT10B (io), D12 PT12D (io), D14 PT15D (io), D16 PT19A/RDY/RCLK (io), D18 PR2D (io), D19 PR3A/~{WR} (io), D20 PR5D (io), E17 PR2A (io), E18 PR4A (io), E19 PR5B (io), E20 PR6B (io), F18 PR5A/~{RD} (io), F19 PR7B (io), F20 PR8D (io), G17 PR6D (io), G18 PR7A/~{CS0} (io), G19 PR8C (io), G20 PR8B (io), H18 PR8A/CS1 (io), H19 PR9D (io), H20 PR9C (io), J17 PR9B (io), J18 PR9A (io), J19 PR10D (io), J20 PR10C (io), K17 PR10B (io), K18 PR10A (io), K19 PR11D (io), K20 PR11C (io), L18 PR11A (io), L19 PR12D (io), L20 PR11B (io), M17 PR13D (io), M18 PR12A/M3 (io), M19 PR12B (io), M20 PR12C (io), N18 PR13A/M2 (io), N19 PR13B (io), N20 PR13C (io), P17 PR16A (io), P18 PR15A (io), P19 PR15D (io), P20 PR14A (io), R18 PR17D (io), R19 PR16C (io), R20 PR16D/M1 (io), T17 PR19A (io), T18 PR18B (io), T19 PR18D (io), T20 PR17A (io), U18 PR20D (io), U19 PR20A/M0 (io), U20 PR18A (io), V19 ~{PRGM} (in), V20 PR19D (io), W20 ~{RESET} (in), Y1 CCLK (io), Y20 DONE (io)
part C pins: A1 VSS (power), B1 VDD (power), D4 VSS (power), D6 VDD (power), D8 VSS (power), D11 VDD (power), D13 VSS (power), D15 VDD (power), D17 VSS (power), F4 VDD (power), F17 VDD (power), H4 VSS (power), H17 VSS (power), J9 VSS/ETC (power), J10 VSS/ETC (power), J11 VSS/ETC (power), J12 VSS/ETC (power), K4 VDD (power), K9 VSS/ETC (power), K10 VSS/ETC (power), K11 VSS/ETC (power), K12 VSS/ETC (power), L9 VSS/ETC (power), L10 VSS/ETC (power), L11 VSS/ETC (power), L12 VSS/ETC (power), L17 VDD (power), M9 VSS/ETC (power), M10 VSS/ETC (power), M11 VSS/ETC (power), M12 VSS/ETC (power), N4 VSS (power), N17 VSS (power), R4 VDD (power), R17 VDD (power), U4 VSS (power), U6 VDD (power), U8 VSS (power), U10 VDD (power), U13 VSS (power), U15 VDD (power), U17 VSS (power), W3 NC

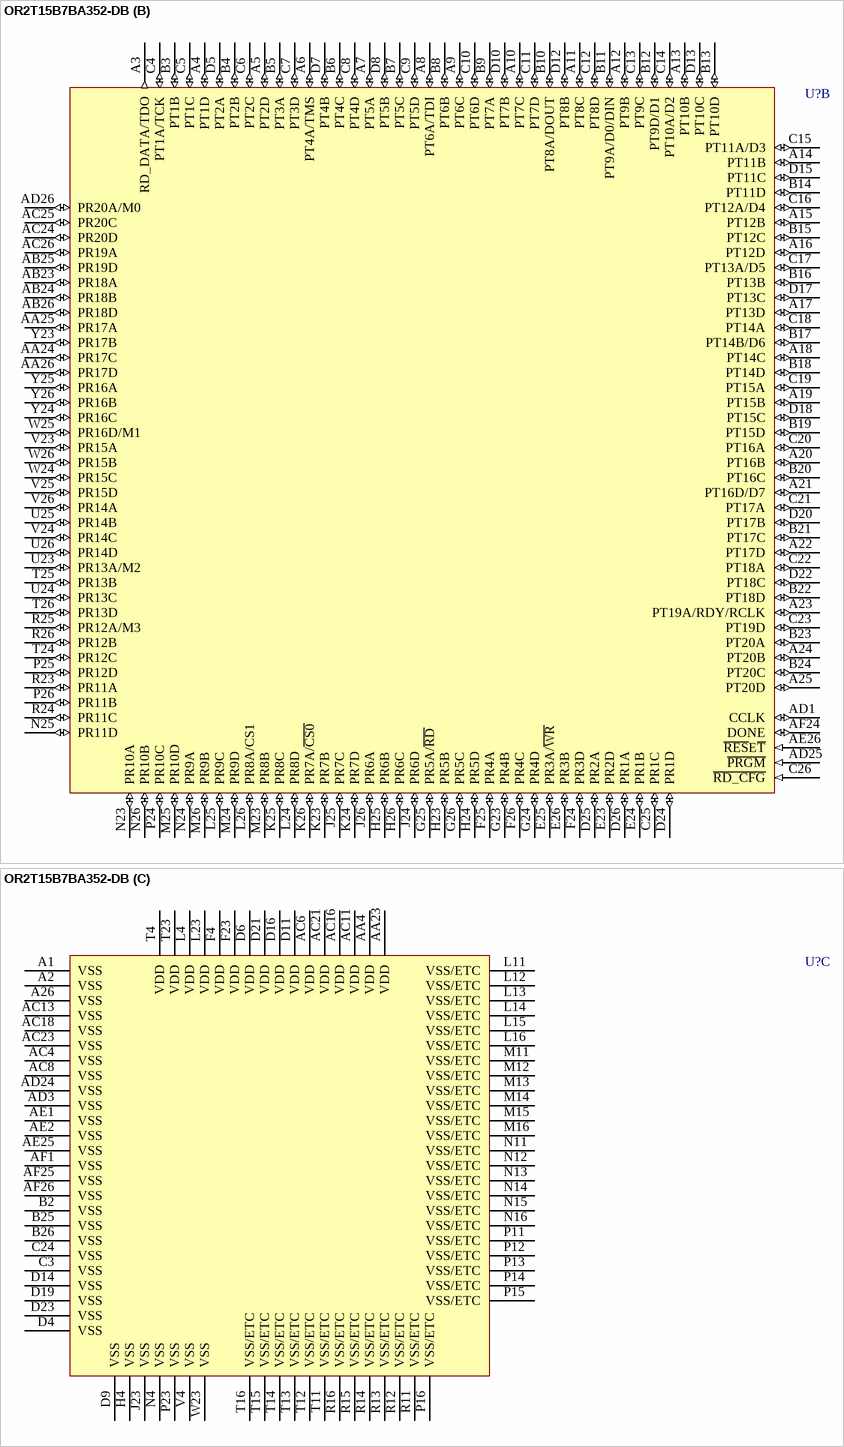
[diagram p128: symbol OR2T15B7BA352-DB]

## OR2T15B7BA352-DB
designator U?
ORCA Series 2C FPGA: 3.3 V, Commercial Grade, 320 User I/Os.; PinConnectionRecommendation: Ground array of 'VSS-ETC' pins for enhanced thermal capability or leave unconnected.; Published: 21-May-2003; LatestRevisionDate: 13-Apr-2006; LatestRevisionNote: IPC-7351 Footprint Added.; DatasheetVersion: Jan-2003; PackageVersion: pkg_32, Aug-2005; PackageReference: BGA388; Publisher: Altium Limited; PackageDescription: 388-Ball Ball Grid Array (BGA388); ComponentLink1Description: Manufacturer Link; ComponentLink1URL: http://www.latticesemi.com/products/fpga/orca/orca2/index.cfm; ComponentLink2Description: Datasheet; ComponentLink2URL: http://www.latticesemi.com/lit/docs/datasheets/fpga/ds99-094fpga.pdf; ComponentLink3Description: Lattice Login; ComponentLink3URL: http://www.latticesemi.com/account/login.cfm
footprint BGA388 (BGA, 388-Leads, Body 35x35mm, Pitch 1.27mm)
3D model OR2T15B-BGA388 (388-Ball Ball Grid Array (BGA388))
part A pins: AA1 PL17A (io), AA2 PL17C (io), AA3 PL19D (io), AB1 PL18A (io), AB2 PL18C (io), AB3 PL20C (io), AB4 PL19A (io), AC1 PL20D (io), AC2 PL19C (io), AC3 PL20A/A15 (io), AC5 PB3C (io), AC7 PB4C (io), AC9 PB6B (io), AC10 PB8B (io), AC12 PB10B (io), AC14 PB11B (io), AC15 PB13C (io), AC17 PB14C (io), AC19 PB16C (io), AC20 PB17C (io), AC22 PB19D (io), AD2 PL20B (io), AD4 PB2A (io), AD5 PB3D (io), AD6 PB4D/A17 (io), AD7 PB5D (io), AD8 PB6D (io), AD9 PB7D (io), AD10 PB8D (io), AD11 PB9D (io), AD12 PB10D (io), AD13 PB11D (io), AD14 PB12B (io), AD15 PB13A/HDC (io), AD16 PB14A/~{LDC} (io), AD17 PB15A (io), AD18 PB16A/~{INIT} (io), AD19 PB17A (io), AD20 PB18A (io), AD21 PB19A (io), AD22 PB20B (io), AD23 PB20D (io), AE3 PB1B (io), AE4 PB1D (io), AE5 PB3A (io), AE6 PB4B (io), AE7 PB5B (io), AE8 PB6A (io), AE9 PB7A (io), AE10 PB7C (io), AE11 PB8C (io), AE12 PB9B (io), AE13 PB10A (io), AE14 PB11A (io), AE15 PB12A (io), AE16 PB12D (io), AE17 PB13D (io), AE18 PB14D (io), AE19 PB15C (io), AE20 PB16B (io), AE21 PB17B (io), AE22 PB18B (io), AE23 PB19C (io), AE24 PB20C (io), AF2 PB1A/A16 (io), AF3 PB1C (io), AF4 PB2D (io), AF5 PB4A (io), AF6 PB5A (io), AF7 PB5C (io), AF8 PB6C (io), AF9 PB7B (io), AF10 PB8A (io), AF11 PB9A (io), AF12 PB9C (io), AF13 PB10C (io), AF14 PB11C (io), AF15 PB12C (io), AF16 PB13B (io), AF17 PB14B (io), AF18 PB15B (io), AF19 PB15D (io), AF20 PB16D (io), AF21 PB17D (io), AF22 PB18D (io), AF23 PB20A (io), B1 PL1D (io), C1 PL1B (io), C2 PL1C (io), D1 PL2A (io), D2 PL1A (io), D3 PL2D/A0 (io), E1 PL4D (io), E2 PL3D (io), E3 PL3A (io), E4 PL3B (io), F1 PL5D (io), F2 PL4C (io), F3 PL4A (io), G1 PL5B (io), G2 PL5C (io), G3 PL5A/A1 (io), G4 PL4B (io), H1 PL6B (io), H2 PL6D (io), H3 PL6A/A2 (io), J1 PL7C (io), J2 PL7D (io), J3 PL7A/A3 (io), J4 PL6C (io), K1 PL8D (io), K2 PL7B (io), K3 PL8A/A4 (io), K4 PL8C (io), L1 PL9D/A5 (io), L2 PL8B (io), L3 PL9A/A6 (io), M1 PL9B (io), M2 PL9C (io), M3 PL10A/A7 (io), M4 PL10C (io), N1 PL10B (io), N2 PL10D (io), N3 PL11A/A8 (io), P1 PL11B (io), P2 PL11D (io), P3 PL12C (io), P4 PL11C (io), R1 PL12B (io), R2 PL12D/A9 (io), R3 PL13D (io), R4 PL13B (io), T1 PL13C (io), T2 PL12A/A10 (io), T3 PL14D/A12 (io), U1 PL14C (io), U2 PL13A/A11 (io), U3 PL15D (io), U4 PL14B (io), V1 PL15C (io), V2 PL14A (io), V3 PL16D (io), W1 PL15A (io), W2 PL15B/A13 (io), W3 PL17D/A14 (io), W4 PL16B (io), Y1 PL16A (io), Y2 PL16C (io), Y3 PL18D (io), Y4 PL17B (io)
part B pins: A3 RD_DATA/TDO (out), A4 PT1D (io), A5 PT2D (io), A6 PT4A/TMS (io), A7 PT5A (io), A8 PT6A/TDI (io), A9 PT6C (io), A10 PT7C (io), A11 PT8C (io), A12 PT9B (io), A13 PT10B (io), A14 PT11B (io), A15 PT12B (io), A16 PT12D (io), A17 PT13D (io), A18 PT14C (io), A19 PT15B (io), A20 PT16B (io), A21 PT16D/D7 (io), A22 PT17D (io), A23 PT19A/RDY/RCLK (io), A24 PT20B (io), A25 PT20D (io), AA24 PR17C (io), AA25 PR17A (io), AA26 PR17D (io), AB23 PR18A (io), AB24 PR18B (io), AB25 PR19D (io), AB26 PR18D (io), AC24 PR20D (io), AC25 PR20C (io), AC26 PR19A (io), AD1 CCLK (io), AD25 ~{PRGM} (in), AD26 PR20A/M0 (io), AE26 ~{RES}E~{T} (in), AF24 DONE (io), B3 PT1B (io), B4 PT2B (io), B5 PT3A (io), B6 PT4C (io), B7 PT5C (io), B8 PT6B (io), B9 PT7A (io), B10 PT8A/DOUT (io), B11 PT9A/D0/DIN (io), B12 PT9D/D1 (io), B13 PT10D (io), B14 PT11D (io), B15 PT12C (io), B16 PT13B (io), B17 PT14B/D6 (io), B18 PT14D (io), B19 PT15D (io), B20 PT16C (io), B21 PT17C (io), B22 PT18D (io), B23 PT20A (io), B24 PT20C (io), C4 PT1A/TCK (io), C5 PT1C (io), C6 PT2C (io), C7 PT3D (io), C8 PT4D (io), C9 PT5D (io), C10 PT6D (io), C11 PT7D (io), C12 PT8D (io), C13 PT9C (io), C14 PT10A/D2 (io), C15 PT11A/D3 (io), C16 PT12A/D4 (io), C17 PT13A/D5 (io), C18 PT14A (io), C19 PT15A (io), C20 PT16A (io), C21 PT17A (io), C22 PT18A (io), C23 PT19D (io), C25 PR1C (io), C26 ~{RD_CFG} (in), D5 PT2A (io), D7 PT4B (io), D8 PT5B (io), D10 PT7B (io), D12 PT8B (io), D13 PT10C (io), D15 PT11C (io), D17 PT13C (io), D18 PT15C (io), D20 PT17B (io), D22 PT18C (io), D24 PR1D (io), D25 PR2A (io), D26 PR1A (io), E23 PR2D (io), E24 PR1B (io), E25 PR3A/~{WR} (io), E26 PR3B (io), F24 PR3D (io), F25 PR4A (io), F26 PR4C (io), G23 PR4B (io), G24 PR4D (io), G25 PR5A/~{RD} (io), G26 PR5C (io), H23 PR5B (io), H24 PR5D (io), H25 PR6B (io), H26 PR6C (io), J24 PR6D (io), J25 PR7C (io), J26 PR6A (io), K23 PR7B (io), K24 PR7D (io), K25 PR8C (io), K26 PR7A/~{CS0} (io), L24 PR8D (io), L25 PR9C (io), L26 PR8A/CS1 (io), M23 PR8B (io), M24 PR9D (io), M25 PR10D (io), M26 PR9B (io), N23 PR10A (io), N24 PR9A (io), N25 PR11D (io), N26 PR10B (io), P24 PR10C (io), P25 PR12D (io), P26 PR11B (io), R23 PR11A (io), R24 PR11C (io), R25 PR12A/M3 (io), R26 PR12B (io), T24 PR12C (io), T25 PR13B (io), T26 PR13D (io), U23 PR13A/M2 (io), U24 PR13C (io), U25 PR14B (io), U26 PR14D (io), V23 PR15A (io), V24 PR14C (io), V25 PR15D (io), V26 PR14A (io), W24 PR15C (io), W25 PR16D/M1 (io), W26 PR15B (io), Y23 PR17B (io), Y24 PR16C (io), Y25 PR16A (io), Y26 PR16B (io)
part C pins: A1 VSS (power), A2 VSS (power), A26 VSS (power), AA4 VDD (power), AA23 VDD (power), AC4 VSS (power), AC6 VDD (power), AC8 VSS (power), AC11 VDD (power), AC13 VSS (power), AC16 VDD (power), AC18 VSS (power), AC21 VDD (power), AC23 VSS (power), AD3 VSS (power), AD24 VSS (power), AE1 VSS (power), AE2 VSS (power), AE25 VSS (power), AF1 VSS (power), AF25 VSS (power), AF26 VSS (power), B2 VSS (power), B25 VSS (power), B26 VSS (power), C3 VSS (power), C24 VSS (power), D4 VSS (power), D6 VDD (power), D9 VSS (power), D11 VDD (power), D14 VSS (power), D16 VDD (power), D19 VSS (power), D21 VDD (power), D23 VSS (power), F4 VDD (power), F23 VDD (power), H4 VSS (power), J23 VSS (power), L4 VDD (power), L11 VSS/ETC (power), L12 VSS/ETC (power), L13 VSS/ETC (power), L14 VSS/ETC (power), L15 VSS/ETC (power), L16 VSS/ETC (power), L23 VDD (power), M11 VSS/ETC (power), M12 VSS/ETC (power), M13 VSS/ETC (power), M14 VSS/ETC (power), M15 VSS/ETC (power), M16 VSS/ETC (power), N4 VSS (power), N11 VSS/ETC (power), N12 VSS/ETC (power), N13 VSS/ETC (power), N14 VSS/ETC (power), N15 VSS/ETC (power), N16 VSS/ETC (power), P11 VSS/ETC (power), P12 VSS/ETC (power), P13 VSS/ETC (power), P14 VSS/ETC (power), P15 VSS/ETC (power), P16 VSS/ETC (power), P23 VSS (power), R11 VSS/ETC (power), R12 VSS/ETC (power), R13 VSS/ETC (power), R14 VSS/ETC (power), R15 VSS/ETC (power), R16 VSS/ETC (power), T4 VDD (power), T11 VSS/ETC (power), T12 VSS/ETC (power), T13 VSS/ETC (power), T14 VSS/ETC (power), T15 VSS/ETC (power), T16 VSS/ETC (power), T23 VDD (power), V4 VSS (power), W23 VSS (power)

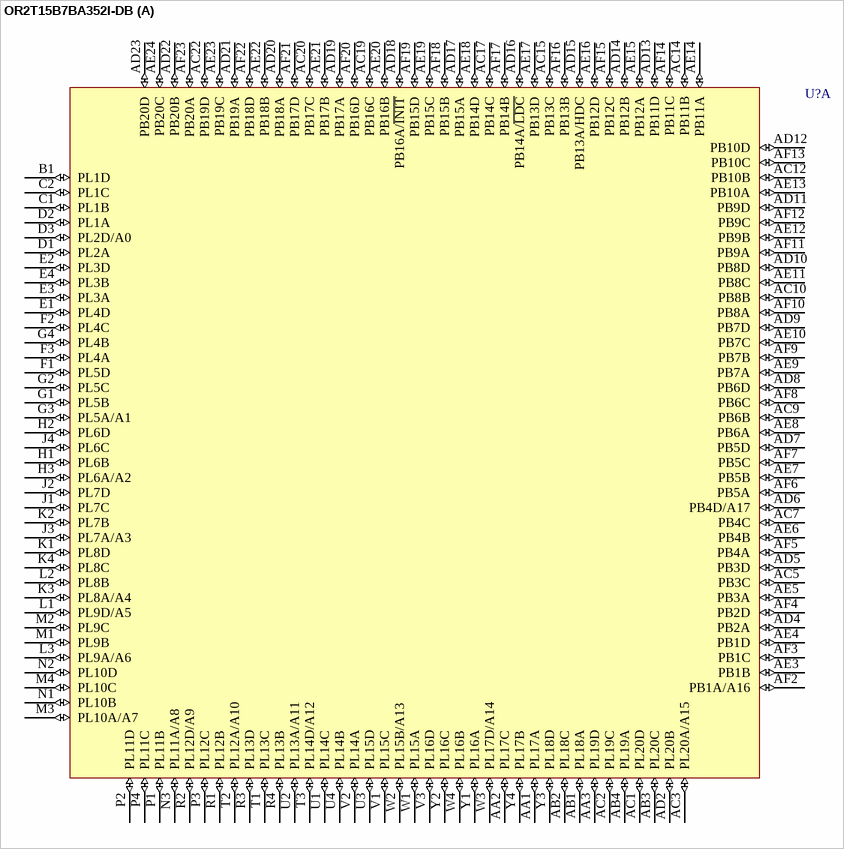
[diagram p129: symbol OR2T15B7BA352I-DB]

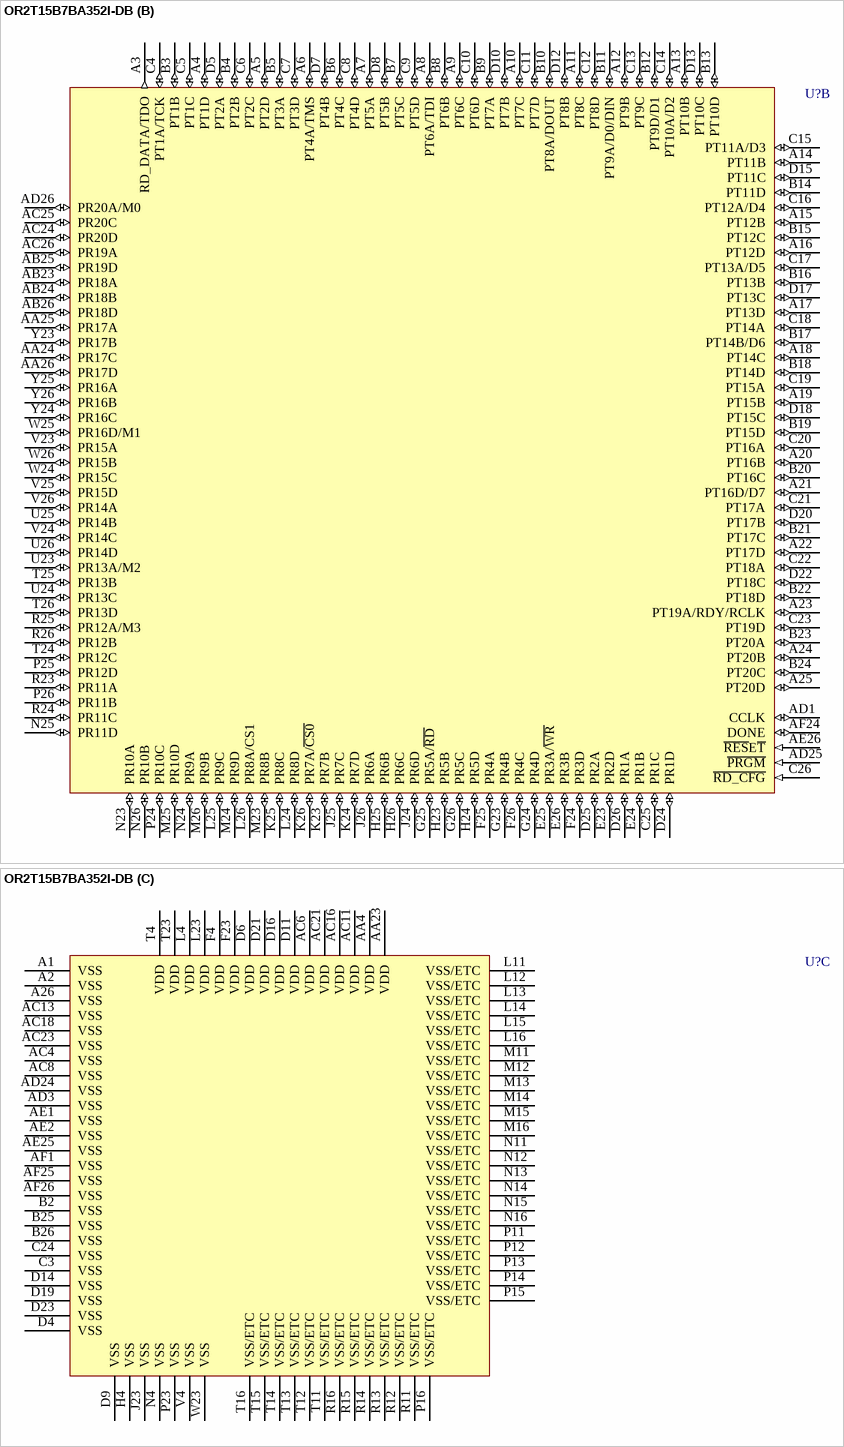
[diagram p130: symbol OR2T15B7BA352I-DB]

## OR2T15B7BA352I-DB
designator U?
ORCA Series 2C FPGA: 3.3 V, Industrial Grade, 320 User I/Os.; PinConnectionRecommendation: Ground array of 'VSS-ETC' pins for enhanced thermal capability or leave unconnected.; Published: 21-May-2003; LatestRevisionDate: 13-Apr-2006; LatestRevisionNote: IPC-7351 Footprint Added.; DatasheetVersion: Jan-2003; PackageVersion: pkg_32, Aug-2005; PackageReference: BGA388; Publisher: Altium Limited; PackageDescription: 388-Ball Ball Grid Array (BGA388); ComponentLink1Description: Manufacturer Link; ComponentLink1URL: http://www.latticesemi.com/products/fpga/orca/orca2/index.cfm; ComponentLink2Description: Datasheet; ComponentLink2URL: http://www.latticesemi.com/lit/docs/datasheets/fpga/ds99-094fpga.pdf; ComponentLink3Description: Lattice Login; ComponentLink3URL: http://www.latticesemi.com/account/login.cfm
footprint BGA388 (BGA, 388-Leads, Body 35x35mm, Pitch 1.27mm)
3D model OR2T15B-BGA388 (388-Ball Ball Grid Array (BGA388))
part A pins: AA1 PL17A (io), AA2 PL17C (io), AA3 PL19D (io), AB1 PL18A (io), AB2 PL18C (io), AB3 PL20C (io), AB4 PL19A (io), AC1 PL20D (io), AC2 PL19C (io), AC3 PL20A/A15 (io), AC5 PB3C (io), AC7 PB4C (io), AC9 PB6B (io), AC10 PB8B (io), AC12 PB10B (io), AC14 PB11B (io), AC15 PB13C (io), AC17 PB14C (io), AC19 PB16C (io), AC20 PB17C (io), AC22 PB19D (io), AD2 PL20B (io), AD4 PB2A (io), AD5 PB3D (io), AD6 PB4D/A17 (io), AD7 PB5D (io), AD8 PB6D (io), AD9 PB7D (io), AD10 PB8D (io), AD11 PB9D (io), AD12 PB10D (io), AD13 PB11D (io), AD14 PB12B (io), AD15 PB13A/HDC (io), AD16 PB14A/~{LDC} (io), AD17 PB15A (io), AD18 PB16A/~{INIT} (io), AD19 PB17A (io), AD20 PB18A (io), AD21 PB19A (io), AD22 PB20B (io), AD23 PB20D (io), AE3 PB1B (io), AE4 PB1D (io), AE5 PB3A (io), AE6 PB4B (io), AE7 PB5B (io), AE8 PB6A (io), AE9 PB7A (io), AE10 PB7C (io), AE11 PB8C (io), AE12 PB9B (io), AE13 PB10A (io), AE14 PB11A (io), AE15 PB12A (io), AE16 PB12D (io), AE17 PB13D (io), AE18 PB14D (io), AE19 PB15C (io), AE20 PB16B (io), AE21 PB17B (io), AE22 PB18B (io), AE23 PB19C (io), AE24 PB20C (io), AF2 PB1A/A16 (io), AF3 PB1C (io), AF4 PB2D (io), AF5 PB4A (io), AF6 PB5A (io), AF7 PB5C (io), AF8 PB6C (io), AF9 PB7B (io), AF10 PB8A (io), AF11 PB9A (io), AF12 PB9C (io), AF13 PB10C (io), AF14 PB11C (io), AF15 PB12C (io), AF16 PB13B (io), AF17 PB14B (io), AF18 PB15B (io), AF19 PB15D (io), AF20 PB16D (io), AF21 PB17D (io), AF22 PB18D (io), AF23 PB20A (io), B1 PL1D (io), C1 PL1B (io), C2 PL1C (io), D1 PL2A (io), D2 PL1A (io), D3 PL2D/A0 (io), E1 PL4D (io), E2 PL3D (io), E3 PL3A (io), E4 PL3B (io), F1 PL5D (io), F2 PL4C (io), F3 PL4A (io), G1 PL5B (io), G2 PL5C (io), G3 PL5A/A1 (io), G4 PL4B (io), H1 PL6B (io), H2 PL6D (io), H3 PL6A/A2 (io), J1 PL7C (io), J2 PL7D (io), J3 PL7A/A3 (io), J4 PL6C (io), K1 PL8D (io), K2 PL7B (io), K3 PL8A/A4 (io), K4 PL8C (io), L1 PL9D/A5 (io), L2 PL8B (io), L3 PL9A/A6 (io), M1 PL9B (io), M2 PL9C (io), M3 PL10A/A7 (io), M4 PL10C (io), N1 PL10B (io), N2 PL10D (io), N3 PL11A/A8 (io), P1 PL11B (io), P2 PL11D (io), P3 PL12C (io), P4 PL11C (io), R1 PL12B (io), R2 PL12D/A9 (io), R3 PL13D (io), R4 PL13B (io), T1 PL13C (io), T2 PL12A/A10 (io), T3 PL14D/A12 (io), U1 PL14C (io), U2 PL13A/A11 (io), U3 PL15D (io), U4 PL14B (io), V1 PL15C (io), V2 PL14A (io), V3 PL16D (io), W1 PL15A (io), W2 PL15B/A13 (io), W3 PL17D/A14 (io), W4 PL16B (io), Y1 PL16A (io), Y2 PL16C (io), Y3 PL18D (io), Y4 PL17B (io)
part B pins: A3 RD_DATA/TDO (out), A4 PT1D (io), A5 PT2D (io), A6 PT4A/TMS (io), A7 PT5A (io), A8 PT6A/TDI (io), A9 PT6C (io), A10 PT7C (io), A11 PT8C (io), A12 PT9B (io), A13 PT10B (io), A14 PT11B (io), A15 PT12B (io), A16 PT12D (io), A17 PT13D (io), A18 PT14C (io), A19 PT15B (io), A20 PT16B (io), A21 PT16D/D7 (io), A22 PT17D (io), A23 PT19A/RDY/RCLK (io), A24 PT20B (io), A25 PT20D (io), AA24 PR17C (io), AA25 PR17A (io), AA26 PR17D (io), AB23 PR18A (io), AB24 PR18B (io), AB25 PR19D (io), AB26 PR18D (io), AC24 PR20D (io), AC25 PR20C (io), AC26 PR19A (io), AD1 CCLK (io), AD25 ~{PRGM} (in), AD26 PR20A/M0 (io), AE26 ~{RES}E~{T} (in), AF24 DONE (io), B3 PT1B (io), B4 PT2B (io), B5 PT3A (io), B6 PT4C (io), B7 PT5C (io), B8 PT6B (io), B9 PT7A (io), B10 PT8A/DOUT (io), B11 PT9A/D0/DIN (io), B12 PT9D/D1 (io), B13 PT10D (io), B14 PT11D (io), B15 PT12C (io), B16 PT13B (io), B17 PT14B/D6 (io), B18 PT14D (io), B19 PT15D (io), B20 PT16C (io), B21 PT17C (io), B22 PT18D (io), B23 PT20A (io), B24 PT20C (io), C4 PT1A/TCK (io), C5 PT1C (io), C6 PT2C (io), C7 PT3D (io), C8 PT4D (io), C9 PT5D (io), C10 PT6D (io), C11 PT7D (io), C12 PT8D (io), C13 PT9C (io), C14 PT10A/D2 (io), C15 PT11A/D3 (io), C16 PT12A/D4 (io), C17 PT13A/D5 (io), C18 PT14A (io), C19 PT15A (io), C20 PT16A (io), C21 PT17A (io), C22 PT18A (io), C23 PT19D (io), C25 PR1C (io), C26 ~{RD_CFG} (in), D5 PT2A (io), D7 PT4B (io), D8 PT5B (io), D10 PT7B (io), D12 PT8B (io), D13 PT10C (io), D15 PT11C (io), D17 PT13C (io), D18 PT15C (io), D20 PT17B (io), D22 PT18C (io), D24 PR1D (io), D25 PR2A (io), D26 PR1A (io), E23 PR2D (io), E24 PR1B (io), E25 PR3A/~{WR} (io), E26 PR3B (io), F24 PR3D (io), F25 PR4A (io), F26 PR4C (io), G23 PR4B (io), G24 PR4D (io), G25 PR5A/~{RD} (io), G26 PR5C (io), H23 PR5B (io), H24 PR5D (io), H25 PR6B (io), H26 PR6C (io), J24 PR6D (io), J25 PR7C (io), J26 PR6A (io), K23 PR7B (io), K24 PR7D (io), K25 PR8C (io), K26 PR7A/~{CS0} (io), L24 PR8D (io), L25 PR9C (io), L26 PR8A/CS1 (io), M23 PR8B (io), M24 PR9D (io), M25 PR10D (io), M26 PR9B (io), N23 PR10A (io), N24 PR9A (io), N25 PR11D (io), N26 PR10B (io), P24 PR10C (io), P25 PR12D (io), P26 PR11B (io), R23 PR11A (io), R24 PR11C (io), R25 PR12A/M3 (io), R26 PR12B (io), T24 PR12C (io), T25 PR13B (io), T26 PR13D (io), U23 PR13A/M2 (io), U24 PR13C (io), U25 PR14B (io), U26 PR14D (io), V23 PR15A (io), V24 PR14C (io), V25 PR15D (io), V26 PR14A (io), W24 PR15C (io), W25 PR16D/M1 (io), W26 PR15B (io), Y23 PR17B (io), Y24 PR16C (io), Y25 PR16A (io), Y26 PR16B (io)
part C pins: A1 VSS (power), A2 VSS (power), A26 VSS (power), AA4 VDD (power), AA23 VDD (power), AC4 VSS (power), AC6 VDD (power), AC8 VSS (power), AC11 VDD (power), AC13 VSS (power), AC16 VDD (power), AC18 VSS (power), AC21 VDD (power), AC23 VSS (power), AD3 VSS (power), AD24 VSS (power), AE1 VSS (power), AE2 VSS (power), AE25 VSS (power), AF1 VSS (power), AF25 VSS (power), AF26 VSS (power), B2 VSS (power), B25 VSS (power), B26 VSS (power), C3 VSS (power), C24 VSS (power), D4 VSS (power), D6 VDD (power), D9 VSS (power), D11 VDD (power), D14 VSS (power), D16 VDD (power), D19 VSS (power), D21 VDD (power), D23 VSS (power), F4 VDD (power), F23 VDD (power), H4 VSS (power), J23 VSS (power), L4 VDD (power), L11 VSS/ETC (power), L12 VSS/ETC (power), L13 VSS/ETC (power), L14 VSS/ETC (power), L15 VSS/ETC (power), L16 VSS/ETC (power), L23 VDD (power), M11 VSS/ETC (power), M12 VSS/ETC (power), M13 VSS/ETC (power), M14 VSS/ETC (power), M15 VSS/ETC (power), M16 VSS/ETC (power), N4 VSS (power), N11 VSS/ETC (power), N12 VSS/ETC (power), N13 VSS/ETC (power), N14 VSS/ETC (power), N15 VSS/ETC (power), N16 VSS/ETC (power), P11 VSS/ETC (power), P12 VSS/ETC (power), P13 VSS/ETC (power), P14 VSS/ETC (power), P15 VSS/ETC (power), P16 VSS/ETC (power), P23 VSS (power), R11 VSS/ETC (power), R12 VSS/ETC (power), R13 VSS/ETC (power), R14 VSS/ETC (power), R15 VSS/ETC (power), R16 VSS/ETC (power), T4 VDD (power), T11 VSS/ETC (power), T12 VSS/ETC (power), T13 VSS/ETC (power), T14 VSS/ETC (power), T15 VSS/ETC (power), T16 VSS/ETC (power), T23 VDD (power), V4 VSS (power), W23 VSS (power)

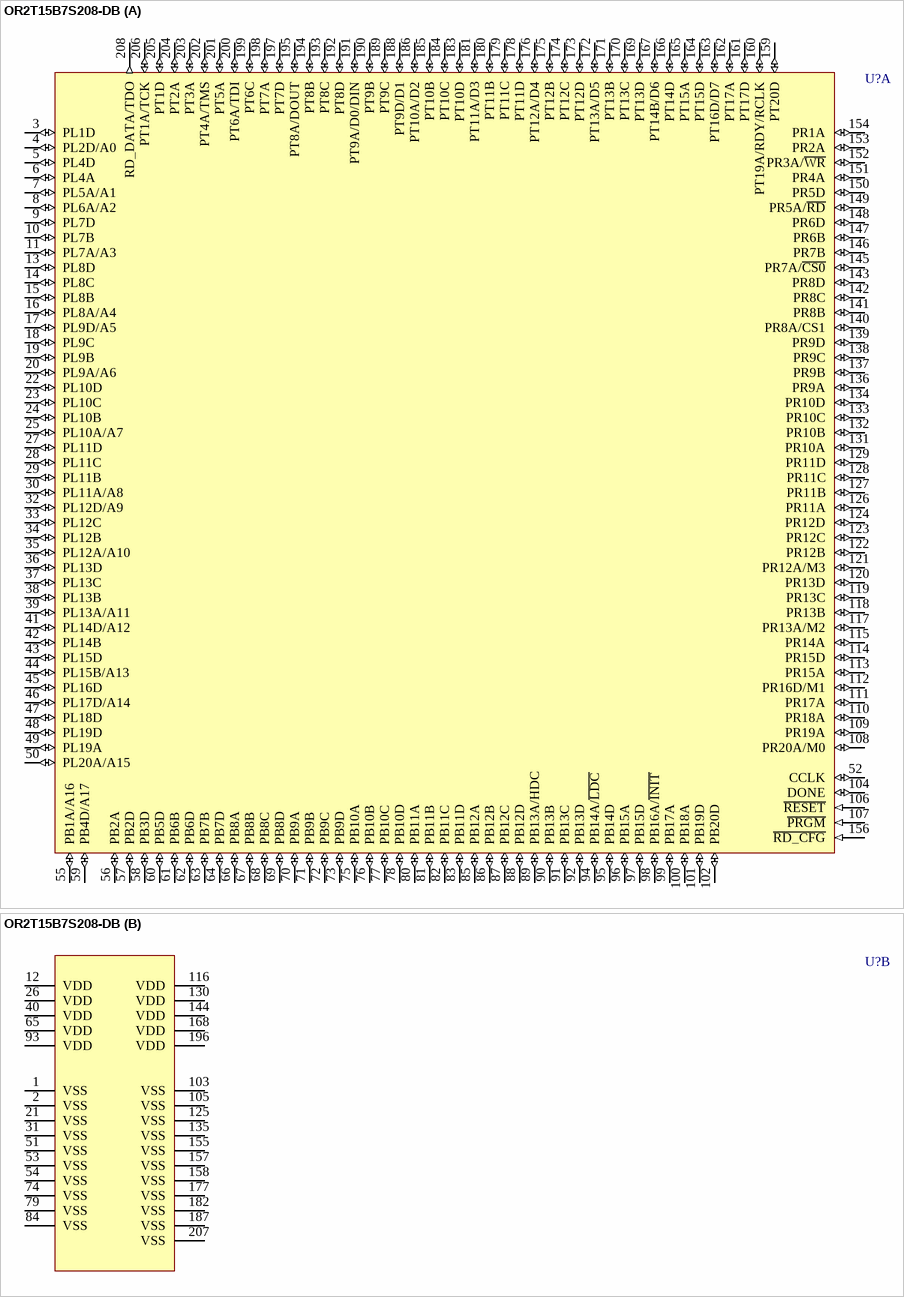
[diagram p131: symbol OR2T15B7S208-DB]

## OR2T15B7S208-DB
designator U?
ORCA Series 2C FPGA: 3.3 V, Commercial Grade, 320 User I/Os.; Published: 21-May-2003; LatestRevisionDate: 13-Apr-2006; LatestRevisionNote: IPC-7351 Footprint Added.; DatasheetVersion: Jan-2003; PackageVersion: pkg_32, Aug-2005; PackageReference: PQFP208; Publisher: Altium Limited; PackageDescription: 208-Pin Plastic Quad Flat Pack (PQFP208); Code_JEDEC: MO-143-FAI; ComponentLink1Description: Manufacturer Link; ComponentLink1URL: http://www.latticesemi.com/products/fpga/orca/orca2/index.cfm; ComponentLink2Description: Datasheet; ComponentLink2URL: http://www.latticesemi.com/lit/docs/datasheets/fpga/ds99-094fpga.pdf; ComponentLink3Description: Lattice Login; ComponentLink3URL: http://www.latticesemi.com/account/login.cfm
footprint PQFP208_N (Shrink QFP, 208-Leads, Body 28x28mm, Pitch 0.5mm, IPC Medium Density)
footprint PQFP208_L (Shrink QFP, 208-Leads, Body 28x28mm, Pitch 0.5mm, IPC High Density)
footprint PQFP208_M (Shrink QFP, 208-Leads, Body 28x28mm, Pitch 0.5mm, IPC Low Density)
3D model OR2T15B-PQFP208 (208-Pin Plastic Quad Flat Pack (PQFP208))
part A pins: 3 PL1D (io), 4 PL2D/A0 (io), 5 PL4D (io), 6 PL4A (io), 7 PL5A/A1 (io), 8 PL6A/A2 (io), 9 PL7D (io), 10 PL7B (io), 11 PL7A/A3 (io), 13 PL8D (io), 14 PL8C (io), 15 PL8B (io), 16 PL8A/A4 (io), 17 PL9D/A5 (io), 18 PL9C (io), 19 PL9B (io), 20 PL9A/A6 (io), 22 PL10D (io), 23 PL10C (io), 24 PL10B (io), 25 PL10A/A7 (io), 27 PL11D (io), 28 PL11C (io), 29 PL11B (io), 30 PL11A/A8 (io), 32 PL12D/A9 (io), 33 PL12C (io), 34 PL12B (io), 35 PL12A/A10 (io), 36 PL13D (io), 37 PL13C (io), 38 PL13B (io), 39 PL13A/A11 (io), 41 PL14D/A12 (io), 42 PL14B (io), 43 PL15D (io), 44 PL15B/A13 (io), 45 PL16D (io), 46 PL17D/A14 (io), 47 PL18D (io), 48 PL19D (io), 49 PL19A (io), 50 PL20A/A15 (io), 52 CCLK (io), 55 PB1A/A16 (io), 56 PB2A (io), 57 PB2D (io), 58 PB3D (io), 59 PB4D/A17 (io), 60 PB5D (io), 61 PB6B (io), 62 PB6D (io), 63 PB7B (io), 64 PB7D (io), 66 PB8A (io), 67 PB8B (io), 68 PB8C (io), 69 PB8D (io), 70 PB9A (io), 71 PB9B (io), 72 PB9C (io), 73 PB9D (io), 75 PB10A (io), 76 PB10B (io), 77 PB10C (io), 78 PB10D (io), 80 PB11A (io), 81 PB11B (io), 82 PB11C (io), 83 PB11D (io), 85 PB12A (io), 86 PB12B (io), 87 PB12C (io), 88 PB12D (io), 89 PB13A/HDC (io), 90 PB13B (io), 91 PB13C (io), 92 PB13D (io), 94 PB14A/~{LDC} (io), 95 PB14D (io), 96 PB15A (io), 97 PB15D (io), 98 PB16A/~{INIT} (io), 99 PB17A (io), 100 PB18A (io), 101 PB19D (io), 102 PB20D (io), 104 DONE (io), 106 ~{RESET} (in), 107 ~{PRGM} (in), 108 PR20A/M0 (io), 109 PR19A (io), 110 PR18A (io), 111 PR17A (io), 112 PR16D/M1 (io), 113 PR15A (io), 114 PR15D (io), 115 PR14A (io), 117 PR13A/M2 (io), 118 PR13B (io), 119 PR13C (io), 120 PR13D (io), 121 PR12A/M3 (io), 122 PR12B (io), 123 PR12C (io), 124 PR12D (io), 126 PR11A (io), 127 PR11B (io), 128 PR11C (io), 129 PR11D (io), 131 PR10A (io), 132 PR10B (io), 133 PR10C (io), 134 PR10D (io), 136 PR9A (io), 137 PR9B (io), 138 PR9C (io), 139 PR9D (io), 140 PR8A/CS1 (io), 141 PR8B (io), 142 PR8C (io), 143 PR8D (io), 145 PR7A/~{CS0} (io), 146 PR7B (io), 147 PR6B (io), 148 PR6D (io), 149 PR5A/~{RD} (io), 150 PR5D (io), 151 PR4A (io), 152 PR3A/~{WR} (io), 153 PR2A (io), 154 PR1A (io), 156 ~{RD_CFG} (in), 159 PT20D (io), 160 PT19A/RDY/RCLK (io), 161 PT17D (io), 162 PT17A (io), 163 PT16D/D7 (io), 164 PT15D (io), 165 PT15A (io), 166 PT14D (io), 167 PT14B/D6 (io), 169 PT13D (io), 170 PT13C (io), 171 PT13B (io), 172 PT13A/D5 (io), 173 PT12D (io), 174 PT12C (io), 175 PT12B (io), 176 PT12A/D4 (io), 178 PT11D (io), 179 PT11C (io), 180 PT11B (io), 181 PT11A/D3 (io), 183 PT10D (io), 184 PT10C (io), 185 PT10B (io), 186 PT10A/D2 (io), 188 PT9D/D1 (io), 189 PT9C (io), 190 PT9B (io), 191 PT9A/D0/DIN (io), 192 PT8D (io), 193 PT8C (io), 194 PT8B (io), 195 PT8A/DOUT (io), 197 PT7D (io), 198 PT7A (io), 199 PT6C (io), 200 PT6A/TDI (io), 201 PT5A (io), 202 PT4A/TMS (io), 203 PT3A (io), 204 PT2A (io), 205 PT1D (io), 206 PT1A/TCK (io), 208 RD_DATA/TDO (out)
part B pins: 1 VSS (power), 2 VSS (power), 12 VDD (power), 21 VSS (power), 26 VDD (power), 31 VSS (power), 40 VDD (power), 51 VSS (power), 53 VSS (power), 54 VSS (power), 65 VDD (power), 74 VSS (power), 79 VSS (power), 84 VSS (power), 93 VDD (power), 103 VSS (power), 105 VSS (power), 116 VDD (power), 125 VSS (power), 130 VDD (power), 135 VSS (power), 144 VDD (power), 155 VSS (power), 157 VSS (power), 158 VSS (power), 168 VDD (power), 177 VSS (power), 182 VSS (power), 187 VSS (power), 196 VDD (power), 207 VSS (power)

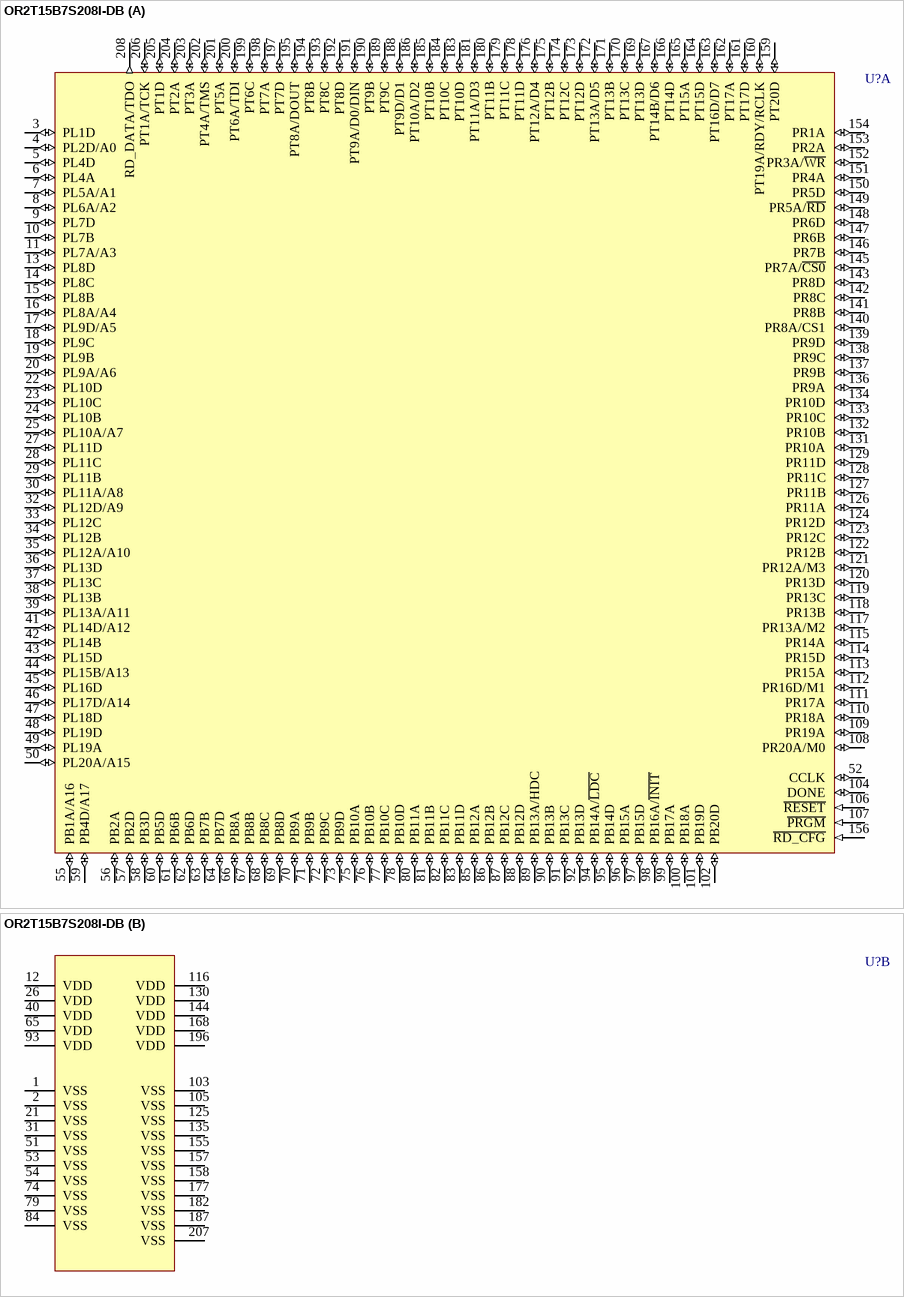
[diagram p132: symbol OR2T15B7S208I-DB]